# Altium schematic symbol library MCU_NXP_Kinetis.SchLib: 155 symbols (part 2 of 5)
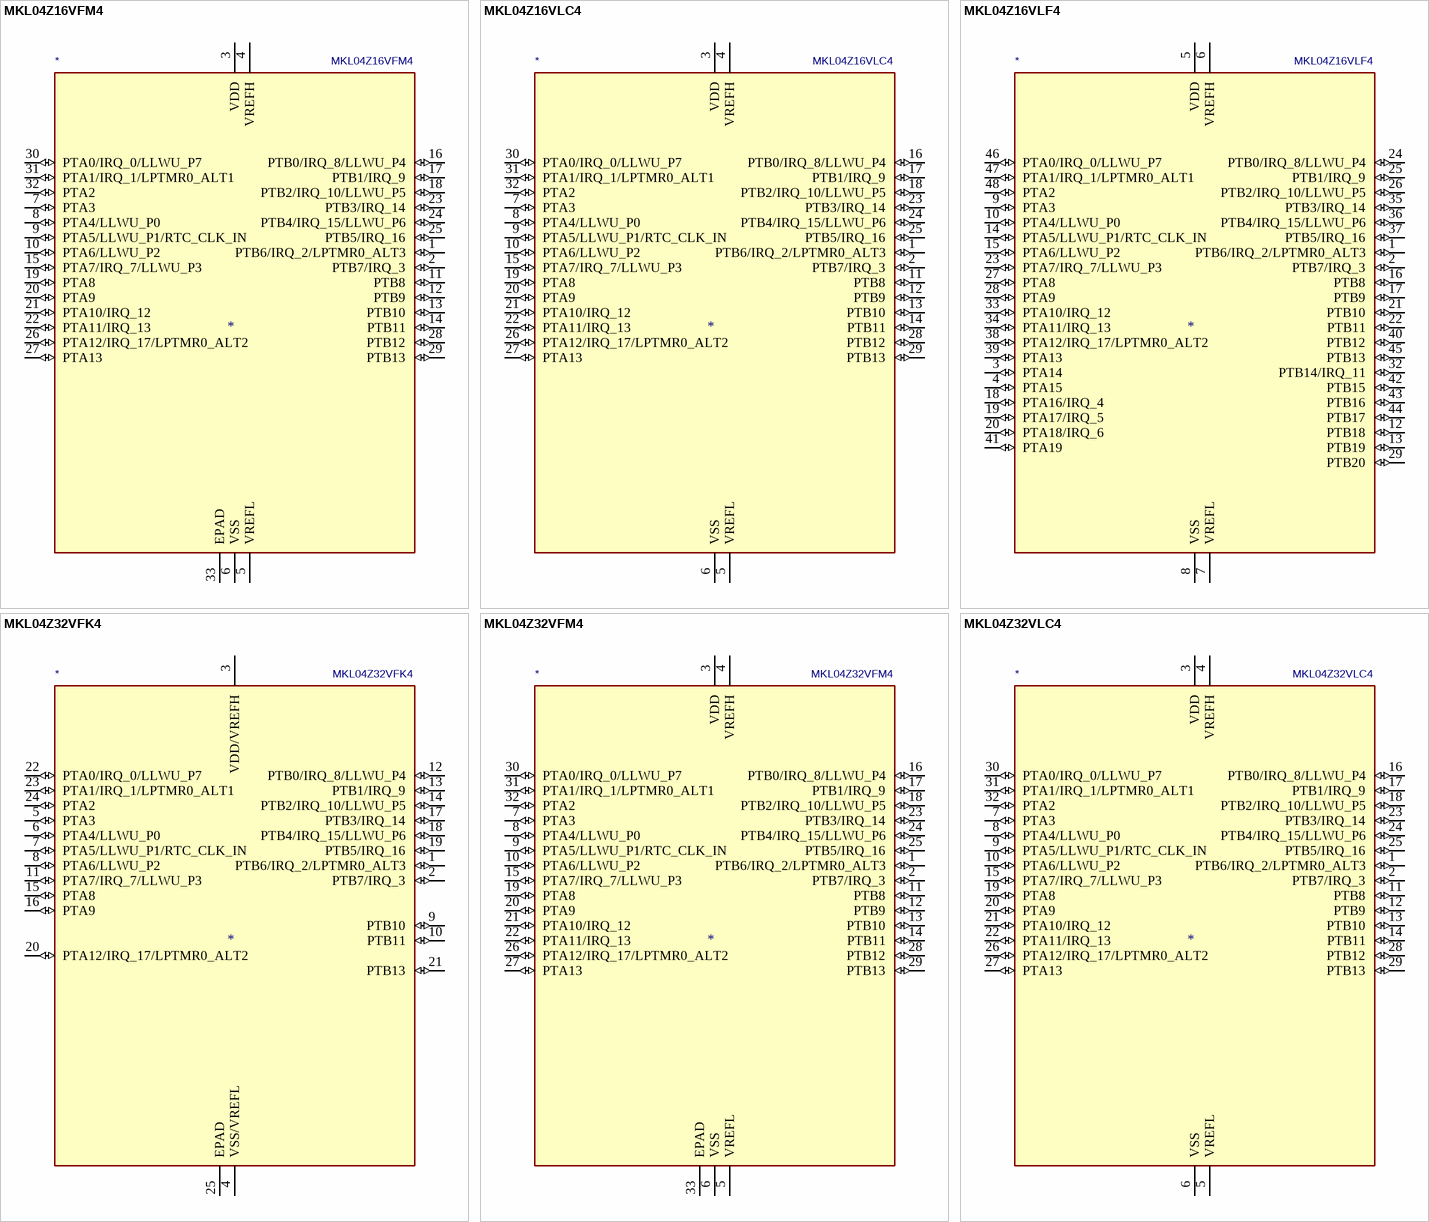
[diagram p31: symbols MKL04Z16VFM4 to MKL04Z32VLC4]

## MKL04Z32VFK4
designator *  value MKL04Z32VFK4
ki_keywords: Kinetis KL04 ARM Cortex M0+; ki_description: Kinetis KL04 series, 48-MHz/32-bit ARM Cortex-M0+, 32 kB flash, 4 kB SRAM, QFN-24; ki_fp_filters: QFN*4x4mm*P0.5mm*; Footprint: Package_DFN_QFN:QFN-24-1EP_4x4mm_P0.5mm_EP2.6x2.6mm; Supplier: http://www.nxp.com/docs/en/data-sheet/KL04P48M48SF1.pdf
footprint QFN-24-1EP_4x4mm_P0.5mm_EP2.6x2.6mm
pins: 1 PTB6/IRQ_2/LPTMR0_ALT3 (io), 2 PTB7/IRQ_3 (io), 3 VDD/VREFH (power), 4 VSS/VREFL (power), 5 PTA3 (io), 6 PTA4/LLWU_P0 (io), 7 PTA5/LLWU_P1/RTC_CLK_IN (io), 8 PTA6/LLWU_P2 (io), 9 PTB10 (io), 10 PTB11 (io), 11 PTA7/IRQ_7/LLWU_P3 (io), 12 PTB0/IRQ_8/LLWU_P4 (io), 13 PTB1/IRQ_9 (io), 14 PTB2/IRQ_10/LLWU_P5 (io), 15 PTA8 (io), 16 PTA9 (io), 17 PTB3/IRQ_14 (io), 18 PTB4/IRQ_15/LLWU_P6 (io), 19 PTB5/IRQ_16 (io), 20 PTA12/IRQ_17/LPTMR0_ALT2 (io), 21 PTB13 (io), 22 PTA0/IRQ_0/LLWU_P7 (io), 23 PTA1/IRQ_1/LPTMR0_ALT1 (io), 24 PTA2 (io), 25 EPAD (power)

## MKL04Z32VFM4
designator *  value MKL04Z32VFM4
ki_keywords: Kinetis KL04 ARM Cortex M0+; ki_description: Kinetis KL04 series, 48-MHz/32-bit ARM Cortex-M0+, 32 kB flash, 4 kB SRAM, QFN-32; ki_fp_filters: QFN*5x5mm*P0.5mm*; Footprint: Package_DFN_QFN:QFN-32-1EP_5x5mm_P0.5mm_EP3.45x3.45mm; Supplier: http://www.nxp.com/docs/en/data-sheet/KL04P48M48SF1.pdf
footprint QFN-32-1EP_5x5mm_P0.5mm_EP3.45x3.45mm
pins: 1 PTB6/IRQ_2/LPTMR0_ALT3 (io), 2 PTB7/IRQ_3 (io), 3 VDD (power), 4 VREFH (power), 5 VREFL (power), 6 VSS (power), 7 PTA3 (io), 8 PTA4/LLWU_P0 (io), 9 PTA5/LLWU_P1/RTC_CLK_IN (io), 10 PTA6/LLWU_P2 (io), 11 PTB8 (io), 12 PTB9 (io), 13 PTB10 (io), 14 PTB11 (io), 15 PTA7/IRQ_7/LLWU_P3 (io), 16 PTB0/IRQ_8/LLWU_P4 (io), 17 PTB1/IRQ_9 (io), 18 PTB2/IRQ_10/LLWU_P5 (io), 19 PTA8 (io), 20 PTA9 (io), 21 PTA10/IRQ_12 (io), 22 PTA11/IRQ_13 (io), 23 PTB3/IRQ_14 (io), 24 PTB4/IRQ_15/LLWU_P6 (io), 25 PTB5/IRQ_16 (io), 26 PTA12/IRQ_17/LPTMR0_ALT2 (io), 27 PTA13 (io), 28 PTB12 (io), 29 PTB13 (io), 30 PTA0/IRQ_0/LLWU_P7 (io), 31 PTA1/IRQ_1/LPTMR0_ALT1 (io), 32 PTA2 (io), 33 EPAD (power)

## MKL04Z32VLC4
designator *  value MKL04Z32VLC4
ki_keywords: Kinetis KL04 ARM Cortex M0+; ki_description: Kinetis KL04 series, 48-MHz/32-bit ARM Cortex-M0+, 32 kB flash, 4 kB SRAM, LQFP-32; ki_fp_filters: LQFP*7x7mm*P0.8mm*; Footprint: Package_QFP:LQFP-32_7x7mm_P0.8mm; Supplier: http://www.nxp.com/docs/en/data-sheet/KL04P48M48SF1.pdf
footprint LQFP-32_7x7mm_P0.8mm
pins: 1 PTB6/IRQ_2/LPTMR0_ALT3 (io), 2 PTB7/IRQ_3 (io), 3 VDD (power), 4 VREFH (power), 5 VREFL (power), 6 VSS (power), 7 PTA3 (io), 8 PTA4/LLWU_P0 (io), 9 PTA5/LLWU_P1/RTC_CLK_IN (io), 10 PTA6/LLWU_P2 (io), 11 PTB8 (io), 12 PTB9 (io), 13 PTB10 (io), 14 PTB11 (io), 15 PTA7/IRQ_7/LLWU_P3 (io), 16 PTB0/IRQ_8/LLWU_P4 (io), 17 PTB1/IRQ_9 (io), 18 PTB2/IRQ_10/LLWU_P5 (io), 19 PTA8 (io), 20 PTA9 (io), 21 PTA10/IRQ_12 (io), 22 PTA11/IRQ_13 (io), 23 PTB3/IRQ_14 (io), 24 PTB4/IRQ_15/LLWU_P6 (io), 25 PTB5/IRQ_16 (io), 26 PTA12/IRQ_17/LPTMR0_ALT2 (io), 27 PTA13 (io), 28 PTB12 (io), 29 PTB13 (io), 30 PTA0/IRQ_0/LLWU_P7 (io), 31 PTA1/IRQ_1/LPTMR0_ALT1 (io), 32 PTA2 (io)

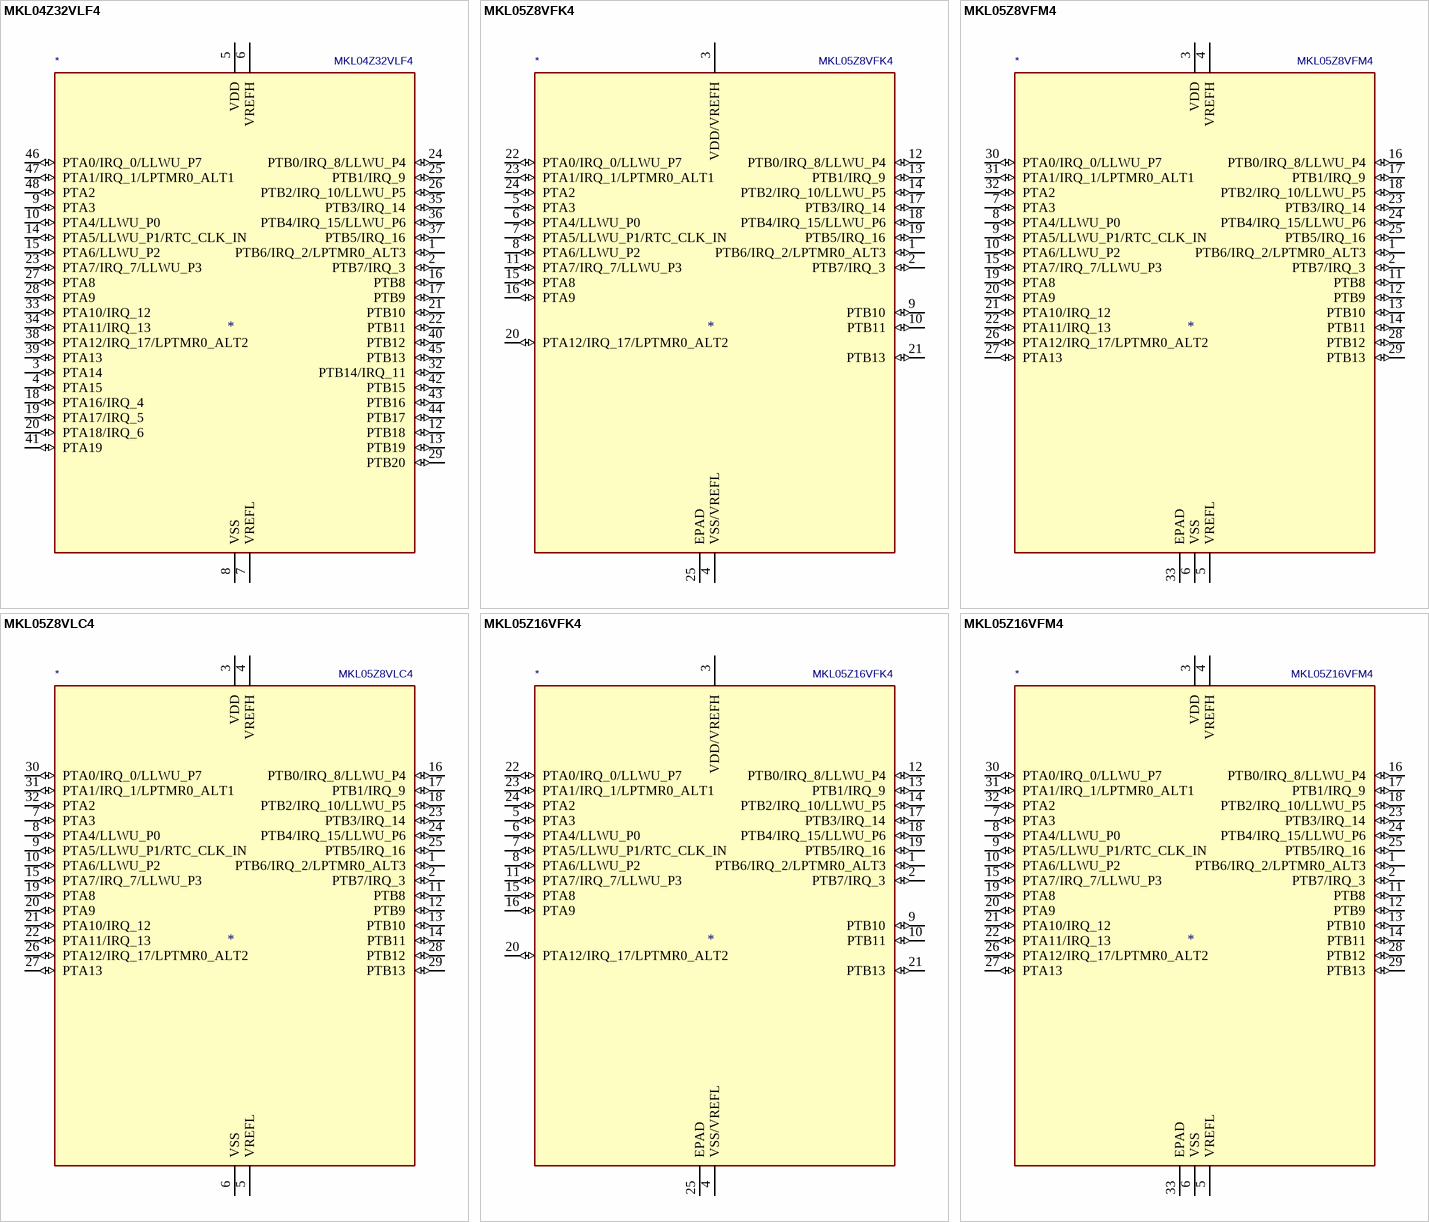
[diagram p7: symbols MKL04Z32VLF4 to MKL05Z16VFM4]

## MKL04Z32VLF4
designator *  value MKL04Z32VLF4
ki_keywords: Kinetis KL04 ARM Cortex M0+; ki_description: Kinetis KL04 series, 48-MHz/32-bit ARM Cortex-M0+, 32 kB flash, 4 kB SRAM, LQFP-48; ki_fp_filters: LQFP*7x7mm*P0.5mm*; Footprint: Package_QFP:LQFP-48_7x7mm_P0.5mm; Supplier: http://www.nxp.com/docs/en/data-sheet/KL04P48M48SF1.pdf
footprint LQFP-48_7x7mm_P0.5mm
pins: 1 PTB6/IRQ_2/LPTMR0_ALT3 (io), 2 PTB7/IRQ_3 (io), 3 PTA14 (io), 4 PTA15 (io), 5 VDD (power), 6 VREFH (power), 7 VREFL (power), 8 VSS (power), 9 PTA3 (io), 10 PTA4/LLWU_P0 (io), 11 VSS hidden, 12 PTB18 (io), 13 PTB19 (io), 14 PTA5/LLWU_P1/RTC_CLK_IN (io), 15 PTA6/LLWU_P2 (io), 16 PTB8 (io), 17 PTB9 (io), 18 PTA16/IRQ_4 (io), 19 PTA17/IRQ_5 (io), 20 PTA18/IRQ_6 (io), 21 PTB10 (io), 22 PTB11 (io), 23 PTA7/IRQ_7/LLWU_P3 (io), 24 PTB0/IRQ_8/LLWU_P4 (io), 25 PTB1/IRQ_9 (io), 26 PTB2/IRQ_10/LLWU_P5 (io), 27 PTA8 (io), 28 PTA9 (io), 29 PTB20 (io), 30 VSS hidden, 31 VDD hidden, 32 PTB14/IRQ_11 (io), 33 PTA10/IRQ_12 (io), 34 PTA11/IRQ_13 (io), 35 PTB3/IRQ_14 (io), 36 PTB4/IRQ_15/LLWU_P6 (io), 37 PTB5/IRQ_16 (io), 38 PTA12/IRQ_17/LPTMR0_ALT2 (io), 39 PTA13 (io), 40 PTB12 (io), 41 PTA19 (io), 42 PTB15 (io), 43 PTB16 (io), 44 PTB17 (io), 45 PTB13 (io), 46 PTA0/IRQ_0/LLWU_P7 (io), 47 PTA1/IRQ_1/LPTMR0_ALT1 (io), 48 PTA2 (io)

## MKL05Z8VFK4
designator *  value MKL05Z8VFK4
ki_keywords: Kinetis KL05 ARM Cortex M0+; ki_description: Kinetis KL05 series, 48-MHz/32-bit ARM Cortex-M0+, 8 kB flash, 1 kB SRAM, QFN-24; ki_fp_filters: QFN*4x4mm*P0.5mm*; Footprint: Package_DFN_QFN:QFN-24-1EP_4x4mm_P0.5mm_EP2.6x2.6mm; Supplier: http://www.nxp.com/docs/en/data-sheet/KL05P48M48SF1.pdf
footprint QFN-24-1EP_4x4mm_P0.5mm_EP2.6x2.6mm
pins: 1 PTB6/IRQ_2/LPTMR0_ALT3 (io), 2 PTB7/IRQ_3 (io), 3 VDD/VREFH (power), 4 VSS/VREFL (power), 5 PTA3 (io), 6 PTA4/LLWU_P0 (io), 7 PTA5/LLWU_P1/RTC_CLK_IN (io), 8 PTA6/LLWU_P2 (io), 9 PTB10 (io), 10 PTB11 (io), 11 PTA7/IRQ_7/LLWU_P3 (io), 12 PTB0/IRQ_8/LLWU_P4 (io), 13 PTB1/IRQ_9 (io), 14 PTB2/IRQ_10/LLWU_P5 (io), 15 PTA8 (io), 16 PTA9 (io), 17 PTB3/IRQ_14 (io), 18 PTB4/IRQ_15/LLWU_P6 (io), 19 PTB5/IRQ_16 (io), 20 PTA12/IRQ_17/LPTMR0_ALT2 (io), 21 PTB13 (io), 22 PTA0/IRQ_0/LLWU_P7 (io), 23 PTA1/IRQ_1/LPTMR0_ALT1 (io), 24 PTA2 (io), 25 EPAD (power)

## MKL05Z8VFM4
designator *  value MKL05Z8VFM4
ki_keywords: Kinetis KL05 ARM Cortex M0+; ki_description: Kinetis KL05 series, 48-MHz/32-bit ARM Cortex-M0+, 8 kB flash, 1 kB SRAM, QFN-32; ki_fp_filters: QFN*5x5mm*P0.5mm*; Footprint: Package_DFN_QFN:QFN-32-1EP_5x5mm_P0.5mm_EP3.45x3.45mm; Supplier: http://www.nxp.com/docs/en/data-sheet/KL05P48M48SF1.pdf
footprint QFN-32-1EP_5x5mm_P0.5mm_EP3.45x3.45mm
pins: 1 PTB6/IRQ_2/LPTMR0_ALT3 (io), 2 PTB7/IRQ_3 (io), 3 VDD (power), 4 VREFH (power), 5 VREFL (power), 6 VSS (power), 7 PTA3 (io), 8 PTA4/LLWU_P0 (io), 9 PTA5/LLWU_P1/RTC_CLK_IN (io), 10 PTA6/LLWU_P2 (io), 11 PTB8 (io), 12 PTB9 (io), 13 PTB10 (io), 14 PTB11 (io), 15 PTA7/IRQ_7/LLWU_P3 (io), 16 PTB0/IRQ_8/LLWU_P4 (io), 17 PTB1/IRQ_9 (io), 18 PTB2/IRQ_10/LLWU_P5 (io), 19 PTA8 (io), 20 PTA9 (io), 21 PTA10/IRQ_12 (io), 22 PTA11/IRQ_13 (io), 23 PTB3/IRQ_14 (io), 24 PTB4/IRQ_15/LLWU_P6 (io), 25 PTB5/IRQ_16 (io), 26 PTA12/IRQ_17/LPTMR0_ALT2 (io), 27 PTA13 (io), 28 PTB12 (io), 29 PTB13 (io), 30 PTA0/IRQ_0/LLWU_P7 (io), 31 PTA1/IRQ_1/LPTMR0_ALT1 (io), 32 PTA2 (io), 33 EPAD (power)

## MKL05Z8VLC4
designator *  value MKL05Z8VLC4
ki_keywords: Kinetis KL05 ARM Cortex M0+; ki_description: Kinetis KL05 series, 48-MHz/32-bit ARM Cortex-M0+, 8 kB flash, 1 kB SRAM, LQFP-32; ki_fp_filters: LQFP*7x7mm*P0.8mm*; Footprint: Package_QFP:LQFP-32_7x7mm_P0.8mm; Supplier: http://www.nxp.com/docs/en/data-sheet/KL05P48M48SF1.pdf
footprint LQFP-32_7x7mm_P0.8mm
pins: 1 PTB6/IRQ_2/LPTMR0_ALT3 (io), 2 PTB7/IRQ_3 (io), 3 VDD (power), 4 VREFH (power), 5 VREFL (power), 6 VSS (power), 7 PTA3 (io), 8 PTA4/LLWU_P0 (io), 9 PTA5/LLWU_P1/RTC_CLK_IN (io), 10 PTA6/LLWU_P2 (io), 11 PTB8 (io), 12 PTB9 (io), 13 PTB10 (io), 14 PTB11 (io), 15 PTA7/IRQ_7/LLWU_P3 (io), 16 PTB0/IRQ_8/LLWU_P4 (io), 17 PTB1/IRQ_9 (io), 18 PTB2/IRQ_10/LLWU_P5 (io), 19 PTA8 (io), 20 PTA9 (io), 21 PTA10/IRQ_12 (io), 22 PTA11/IRQ_13 (io), 23 PTB3/IRQ_14 (io), 24 PTB4/IRQ_15/LLWU_P6 (io), 25 PTB5/IRQ_16 (io), 26 PTA12/IRQ_17/LPTMR0_ALT2 (io), 27 PTA13 (io), 28 PTB12 (io), 29 PTB13 (io), 30 PTA0/IRQ_0/LLWU_P7 (io), 31 PTA1/IRQ_1/LPTMR0_ALT1 (io), 32 PTA2 (io)

## MKL05Z16VFK4
designator *  value MKL05Z16VFK4
ki_keywords: Kinetis KL05 ARM Cortex M0+; ki_description: Kinetis KL05 series, 48-MHz/32-bit ARM Cortex-M0+, 16 kB flash, 2 kB SRAM, QFN-24; ki_fp_filters: QFN*4x4mm*P0.5mm*; Footprint: Package_DFN_QFN:QFN-24-1EP_4x4mm_P0.5mm_EP2.6x2.6mm; Supplier: http://www.nxp.com/docs/en/data-sheet/KL05P48M48SF1.pdf
footprint QFN-24-1EP_4x4mm_P0.5mm_EP2.6x2.6mm
pins: 1 PTB6/IRQ_2/LPTMR0_ALT3 (io), 2 PTB7/IRQ_3 (io), 3 VDD/VREFH (power), 4 VSS/VREFL (power), 5 PTA3 (io), 6 PTA4/LLWU_P0 (io), 7 PTA5/LLWU_P1/RTC_CLK_IN (io), 8 PTA6/LLWU_P2 (io), 9 PTB10 (io), 10 PTB11 (io), 11 PTA7/IRQ_7/LLWU_P3 (io), 12 PTB0/IRQ_8/LLWU_P4 (io), 13 PTB1/IRQ_9 (io), 14 PTB2/IRQ_10/LLWU_P5 (io), 15 PTA8 (io), 16 PTA9 (io), 17 PTB3/IRQ_14 (io), 18 PTB4/IRQ_15/LLWU_P6 (io), 19 PTB5/IRQ_16 (io), 20 PTA12/IRQ_17/LPTMR0_ALT2 (io), 21 PTB13 (io), 22 PTA0/IRQ_0/LLWU_P7 (io), 23 PTA1/IRQ_1/LPTMR0_ALT1 (io), 24 PTA2 (io), 25 EPAD (power)

## MKL05Z16VFM4
designator *  value MKL05Z16VFM4
ki_keywords: Kinetis KL05 ARM Cortex M0+; ki_description: Kinetis KL05 series, 48-MHz/32-bit ARM Cortex-M0+, 16 kB flash, 2 kB SRAM, QFN-32; ki_fp_filters: QFN*5x5mm*P0.5mm*; Footprint: Package_DFN_QFN:QFN-32-1EP_5x5mm_P0.5mm_EP3.45x3.45mm; Supplier: http://www.nxp.com/docs/en/data-sheet/KL05P48M48SF1.pdf
footprint QFN-32-1EP_5x5mm_P0.5mm_EP3.45x3.45mm
pins: 1 PTB6/IRQ_2/LPTMR0_ALT3 (io), 2 PTB7/IRQ_3 (io), 3 VDD (power), 4 VREFH (power), 5 VREFL (power), 6 VSS (power), 7 PTA3 (io), 8 PTA4/LLWU_P0 (io), 9 PTA5/LLWU_P1/RTC_CLK_IN (io), 10 PTA6/LLWU_P2 (io), 11 PTB8 (io), 12 PTB9 (io), 13 PTB10 (io), 14 PTB11 (io), 15 PTA7/IRQ_7/LLWU_P3 (io), 16 PTB0/IRQ_8/LLWU_P4 (io), 17 PTB1/IRQ_9 (io), 18 PTB2/IRQ_10/LLWU_P5 (io), 19 PTA8 (io), 20 PTA9 (io), 21 PTA10/IRQ_12 (io), 22 PTA11/IRQ_13 (io), 23 PTB3/IRQ_14 (io), 24 PTB4/IRQ_15/LLWU_P6 (io), 25 PTB5/IRQ_16 (io), 26 PTA12/IRQ_17/LPTMR0_ALT2 (io), 27 PTA13 (io), 28 PTB12 (io), 29 PTB13 (io), 30 PTA0/IRQ_0/LLWU_P7 (io), 31 PTA1/IRQ_1/LPTMR0_ALT1 (io), 32 PTA2 (io), 33 EPAD (power)

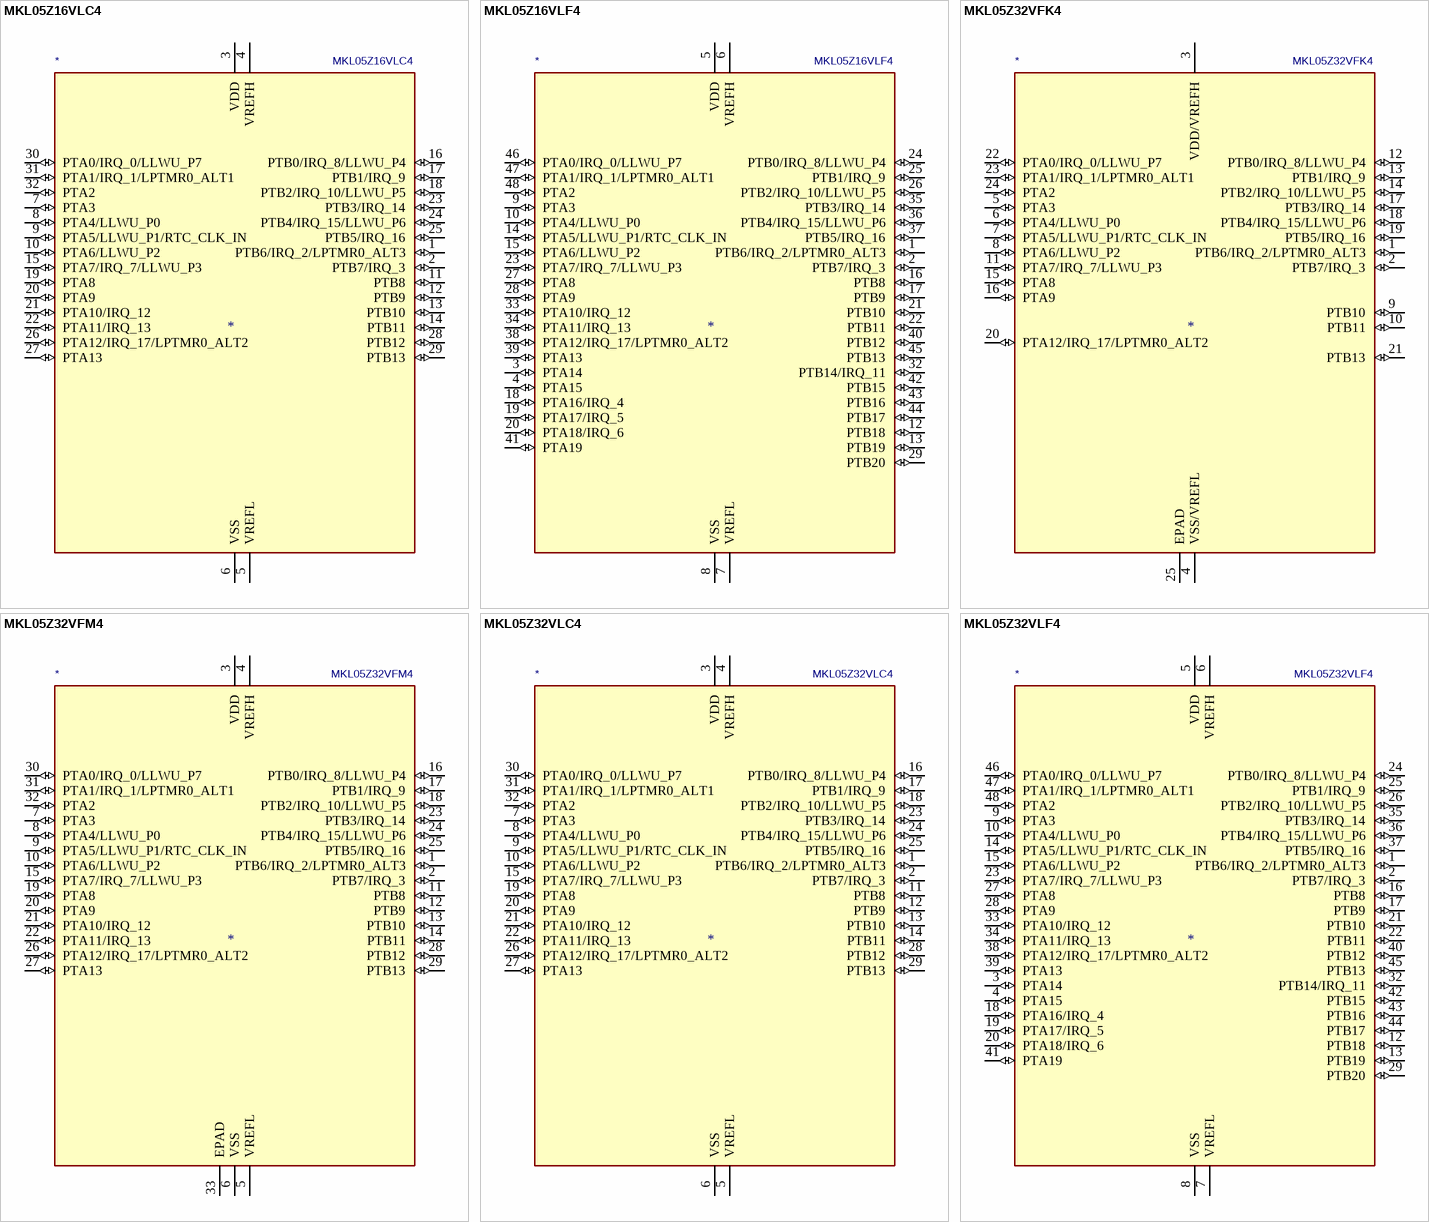
[diagram p8: symbols MKL05Z16VLC4 to MKL05Z32VLF4]

## MKL05Z16VLC4
designator *  value MKL05Z16VLC4
ki_keywords: Kinetis KL05 ARM Cortex M0+; ki_description: Kinetis KL05 series, 48-MHz/32-bit ARM Cortex-M0+, 16 kB flash, 2 kB SRAM, LQFP-32; ki_fp_filters: LQFP*7x7mm*P0.8mm*; Footprint: Package_QFP:LQFP-32_7x7mm_P0.8mm; Supplier: http://www.nxp.com/docs/en/data-sheet/KL05P48M48SF1.pdf
footprint LQFP-32_7x7mm_P0.8mm
pins: 1 PTB6/IRQ_2/LPTMR0_ALT3 (io), 2 PTB7/IRQ_3 (io), 3 VDD (power), 4 VREFH (power), 5 VREFL (power), 6 VSS (power), 7 PTA3 (io), 8 PTA4/LLWU_P0 (io), 9 PTA5/LLWU_P1/RTC_CLK_IN (io), 10 PTA6/LLWU_P2 (io), 11 PTB8 (io), 12 PTB9 (io), 13 PTB10 (io), 14 PTB11 (io), 15 PTA7/IRQ_7/LLWU_P3 (io), 16 PTB0/IRQ_8/LLWU_P4 (io), 17 PTB1/IRQ_9 (io), 18 PTB2/IRQ_10/LLWU_P5 (io), 19 PTA8 (io), 20 PTA9 (io), 21 PTA10/IRQ_12 (io), 22 PTA11/IRQ_13 (io), 23 PTB3/IRQ_14 (io), 24 PTB4/IRQ_15/LLWU_P6 (io), 25 PTB5/IRQ_16 (io), 26 PTA12/IRQ_17/LPTMR0_ALT2 (io), 27 PTA13 (io), 28 PTB12 (io), 29 PTB13 (io), 30 PTA0/IRQ_0/LLWU_P7 (io), 31 PTA1/IRQ_1/LPTMR0_ALT1 (io), 32 PTA2 (io)

## MKL05Z16VLF4
designator *  value MKL05Z16VLF4
ki_keywords: Kinetis KL05 ARM Cortex M0+; ki_description: Kinetis KL05 series, 48-MHz/32-bit ARM Cortex-M0+, 16 kB flash, 2 kB SRAM, LQFP-48; ki_fp_filters: LQFP*7x7mm*P0.5mm*; Footprint: Package_QFP:LQFP-48_7x7mm_P0.5mm; Supplier: http://www.nxp.com/docs/en/data-sheet/KL05P48M48SF1.pdf
footprint LQFP-48_7x7mm_P0.5mm
pins: 1 PTB6/IRQ_2/LPTMR0_ALT3 (io), 2 PTB7/IRQ_3 (io), 3 PTA14 (io), 4 PTA15 (io), 5 VDD (power), 6 VREFH (power), 7 VREFL (power), 8 VSS (power), 9 PTA3 (io), 10 PTA4/LLWU_P0 (io), 11 VSS hidden, 12 PTB18 (io), 13 PTB19 (io), 14 PTA5/LLWU_P1/RTC_CLK_IN (io), 15 PTA6/LLWU_P2 (io), 16 PTB8 (io), 17 PTB9 (io), 18 PTA16/IRQ_4 (io), 19 PTA17/IRQ_5 (io), 20 PTA18/IRQ_6 (io), 21 PTB10 (io), 22 PTB11 (io), 23 PTA7/IRQ_7/LLWU_P3 (io), 24 PTB0/IRQ_8/LLWU_P4 (io), 25 PTB1/IRQ_9 (io), 26 PTB2/IRQ_10/LLWU_P5 (io), 27 PTA8 (io), 28 PTA9 (io), 29 PTB20 (io), 30 VSS hidden, 31 VDD hidden, 32 PTB14/IRQ_11 (io), 33 PTA10/IRQ_12 (io), 34 PTA11/IRQ_13 (io), 35 PTB3/IRQ_14 (io), 36 PTB4/IRQ_15/LLWU_P6 (io), 37 PTB5/IRQ_16 (io), 38 PTA12/IRQ_17/LPTMR0_ALT2 (io), 39 PTA13 (io), 40 PTB12 (io), 41 PTA19 (io), 42 PTB15 (io), 43 PTB16 (io), 44 PTB17 (io), 45 PTB13 (io), 46 PTA0/IRQ_0/LLWU_P7 (io), 47 PTA1/IRQ_1/LPTMR0_ALT1 (io), 48 PTA2 (io)

## MKL05Z32VFK4
designator *  value MKL05Z32VFK4
ki_keywords: Kinetis KL05 ARM Cortex M0+; ki_description: Kinetis KL05 series, 48-MHz/32-bit ARM Cortex-M0+, 32 kB flash, 4 kB SRAM, QFN-24; ki_fp_filters: QFN*4x4mm*P0.5mm*; Footprint: Package_DFN_QFN:QFN-24-1EP_4x4mm_P0.5mm_EP2.6x2.6mm; Supplier: http://www.nxp.com/docs/en/data-sheet/KL05P48M48SF1.pdf
footprint QFN-24-1EP_4x4mm_P0.5mm_EP2.6x2.6mm
pins: 1 PTB6/IRQ_2/LPTMR0_ALT3 (io), 2 PTB7/IRQ_3 (io), 3 VDD/VREFH (power), 4 VSS/VREFL (power), 5 PTA3 (io), 6 PTA4/LLWU_P0 (io), 7 PTA5/LLWU_P1/RTC_CLK_IN (io), 8 PTA6/LLWU_P2 (io), 9 PTB10 (io), 10 PTB11 (io), 11 PTA7/IRQ_7/LLWU_P3 (io), 12 PTB0/IRQ_8/LLWU_P4 (io), 13 PTB1/IRQ_9 (io), 14 PTB2/IRQ_10/LLWU_P5 (io), 15 PTA8 (io), 16 PTA9 (io), 17 PTB3/IRQ_14 (io), 18 PTB4/IRQ_15/LLWU_P6 (io), 19 PTB5/IRQ_16 (io), 20 PTA12/IRQ_17/LPTMR0_ALT2 (io), 21 PTB13 (io), 22 PTA0/IRQ_0/LLWU_P7 (io), 23 PTA1/IRQ_1/LPTMR0_ALT1 (io), 24 PTA2 (io), 25 EPAD (power)

## MKL05Z32VFM4
designator *  value MKL05Z32VFM4
ki_keywords: Kinetis KL05 ARM Cortex M0+; ki_description: Kinetis KL05 series, 48-MHz/32-bit ARM Cortex-M0+, 32 kB flash, 4 kB SRAM, QFN-32; ki_fp_filters: QFN*5x5mm*P0.5mm*; Footprint: Package_DFN_QFN:QFN-32-1EP_5x5mm_P0.5mm_EP3.45x3.45mm; Supplier: http://www.nxp.com/docs/en/data-sheet/KL05P48M48SF1.pdf
footprint QFN-32-1EP_5x5mm_P0.5mm_EP3.45x3.45mm
pins: 1 PTB6/IRQ_2/LPTMR0_ALT3 (io), 2 PTB7/IRQ_3 (io), 3 VDD (power), 4 VREFH (power), 5 VREFL (power), 6 VSS (power), 7 PTA3 (io), 8 PTA4/LLWU_P0 (io), 9 PTA5/LLWU_P1/RTC_CLK_IN (io), 10 PTA6/LLWU_P2 (io), 11 PTB8 (io), 12 PTB9 (io), 13 PTB10 (io), 14 PTB11 (io), 15 PTA7/IRQ_7/LLWU_P3 (io), 16 PTB0/IRQ_8/LLWU_P4 (io), 17 PTB1/IRQ_9 (io), 18 PTB2/IRQ_10/LLWU_P5 (io), 19 PTA8 (io), 20 PTA9 (io), 21 PTA10/IRQ_12 (io), 22 PTA11/IRQ_13 (io), 23 PTB3/IRQ_14 (io), 24 PTB4/IRQ_15/LLWU_P6 (io), 25 PTB5/IRQ_16 (io), 26 PTA12/IRQ_17/LPTMR0_ALT2 (io), 27 PTA13 (io), 28 PTB12 (io), 29 PTB13 (io), 30 PTA0/IRQ_0/LLWU_P7 (io), 31 PTA1/IRQ_1/LPTMR0_ALT1 (io), 32 PTA2 (io), 33 EPAD (power)

## MKL05Z32VLC4
designator *  value MKL05Z32VLC4
ki_keywords: Kinetis KL05 ARM Cortex M0+; ki_description: Kinetis KL05 series, 48-MHz/32-bit ARM Cortex-M0+, 32 kB flash, 4 kB SRAM, LQFP-32; ki_fp_filters: LQFP*7x7mm*P0.8mm*; Footprint: Package_QFP:LQFP-32_7x7mm_P0.8mm; Supplier: http://www.nxp.com/docs/en/data-sheet/KL05P48M48SF1.pdf
footprint LQFP-32_7x7mm_P0.8mm
pins: 1 PTB6/IRQ_2/LPTMR0_ALT3 (io), 2 PTB7/IRQ_3 (io), 3 VDD (power), 4 VREFH (power), 5 VREFL (power), 6 VSS (power), 7 PTA3 (io), 8 PTA4/LLWU_P0 (io), 9 PTA5/LLWU_P1/RTC_CLK_IN (io), 10 PTA6/LLWU_P2 (io), 11 PTB8 (io), 12 PTB9 (io), 13 PTB10 (io), 14 PTB11 (io), 15 PTA7/IRQ_7/LLWU_P3 (io), 16 PTB0/IRQ_8/LLWU_P4 (io), 17 PTB1/IRQ_9 (io), 18 PTB2/IRQ_10/LLWU_P5 (io), 19 PTA8 (io), 20 PTA9 (io), 21 PTA10/IRQ_12 (io), 22 PTA11/IRQ_13 (io), 23 PTB3/IRQ_14 (io), 24 PTB4/IRQ_15/LLWU_P6 (io), 25 PTB5/IRQ_16 (io), 26 PTA12/IRQ_17/LPTMR0_ALT2 (io), 27 PTA13 (io), 28 PTB12 (io), 29 PTB13 (io), 30 PTA0/IRQ_0/LLWU_P7 (io), 31 PTA1/IRQ_1/LPTMR0_ALT1 (io), 32 PTA2 (io)

## MKL05Z32VLF4
designator *  value MKL05Z32VLF4
ki_keywords: Kinetis KL05 ARM Cortex M0+; ki_description: Kinetis KL05 series, 48-MHz/32-bit ARM Cortex-M0+, 32 kB flash, 4 kB SRAM, LQFP-48; ki_fp_filters: LQFP*7x7mm*P0.5mm*; Footprint: Package_QFP:LQFP-48_7x7mm_P0.5mm; Supplier: http://www.nxp.com/docs/en/data-sheet/KL05P48M48SF1.pdf
footprint LQFP-48_7x7mm_P0.5mm
pins: 1 PTB6/IRQ_2/LPTMR0_ALT3 (io), 2 PTB7/IRQ_3 (io), 3 PTA14 (io), 4 PTA15 (io), 5 VDD (power), 6 VREFH (power), 7 VREFL (power), 8 VSS (power), 9 PTA3 (io), 10 PTA4/LLWU_P0 (io), 11 VSS hidden, 12 PTB18 (io), 13 PTB19 (io), 14 PTA5/LLWU_P1/RTC_CLK_IN (io), 15 PTA6/LLWU_P2 (io), 16 PTB8 (io), 17 PTB9 (io), 18 PTA16/IRQ_4 (io), 19 PTA17/IRQ_5 (io), 20 PTA18/IRQ_6 (io), 21 PTB10 (io), 22 PTB11 (io), 23 PTA7/IRQ_7/LLWU_P3 (io), 24 PTB0/IRQ_8/LLWU_P4 (io), 25 PTB1/IRQ_9 (io), 26 PTB2/IRQ_10/LLWU_P5 (io), 27 PTA8 (io), 28 PTA9 (io), 29 PTB20 (io), 30 VSS hidden, 31 VDD hidden, 32 PTB14/IRQ_11 (io), 33 PTA10/IRQ_12 (io), 34 PTA11/IRQ_13 (io), 35 PTB3/IRQ_14 (io), 36 PTB4/IRQ_15/LLWU_P6 (io), 37 PTB5/IRQ_16 (io), 38 PTA12/IRQ_17/LPTMR0_ALT2 (io), 39 PTA13 (io), 40 PTB12 (io), 41 PTA19 (io), 42 PTB15 (io), 43 PTB16 (io), 44 PTB17 (io), 45 PTB13 (io), 46 PTA0/IRQ_0/LLWU_P7 (io), 47 PTA1/IRQ_1/LPTMR0_ALT1 (io), 48 PTA2 (io)

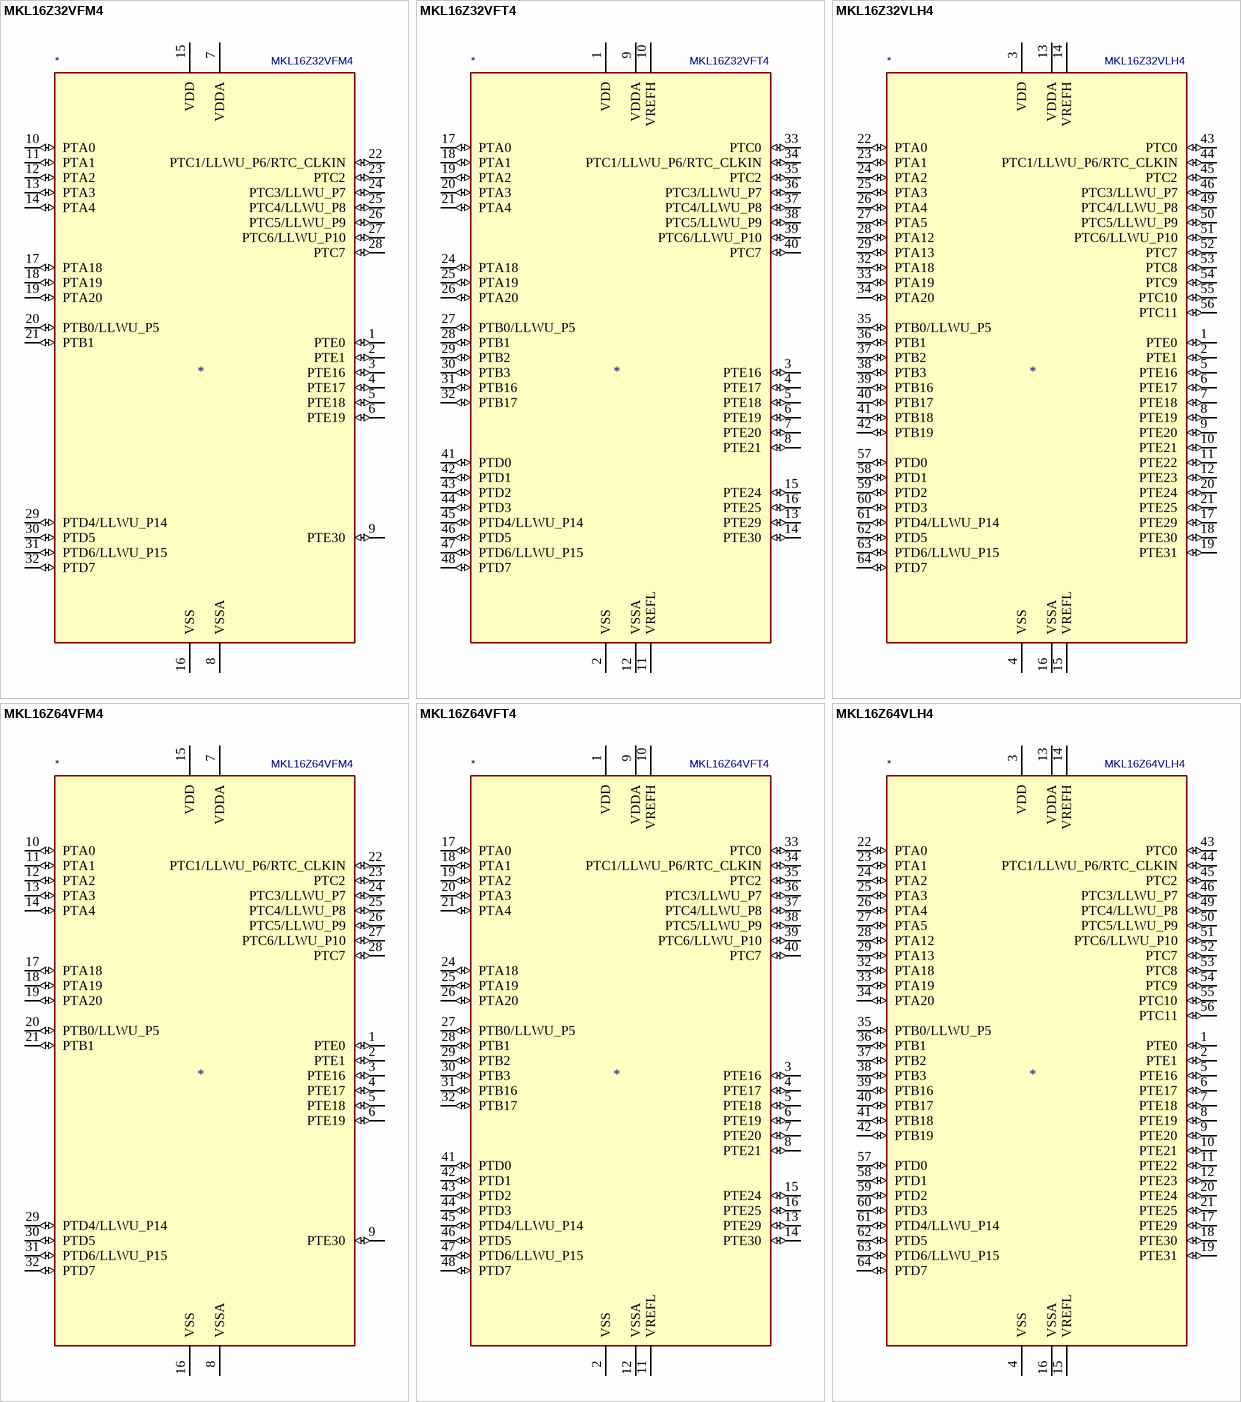
[diagram p9: symbols MKL16Z32VFM4 to MKL16Z64VLH4]

## MKL16Z32VFM4
designator *  value MKL16Z32VFM4
ki_keywords: Kinetis KL16 ARM Cortex M0+; ki_description: Kinetis KL16 series, 48-MHz/32-bit ARM Cortex-M0+, 32 kB flash, 4 kB SRAM, I²S, TSI, QFN-32; ki_fp_filters: QFN*5x5mm*P0.5mm*; Footprint: Package_DFN_QFN:QFN-32-1EP_5x5mm_P0.5mm_EP3.45x3.45mm; Supplier: http://www.nxp.com/docs/en/data-sheet/KL16P64M48SF5.pdf
footprint QFN-32-1EP_5x5mm_P0.5mm_EP3.45x3.45mm
pins: 1 PTE0 (io), 2 PTE1 (io), 3 PTE16 (io), 4 PTE17 (io), 5 PTE18 (io), 6 PTE19 (io), 7 VDDA (power), 8 VSSA (power), 9 PTE30 (io), 10 PTA0 (io), 11 PTA1 (io), 12 PTA2 (io), 13 PTA3 (io), 14 PTA4 (io), 15 VDD (power), 16 VSS (power), 17 PTA18 (io), 18 PTA19 (io), 19 PTA20 (io), 20 PTB0/LLWU_P5 (io), 21 PTB1 (io), 22 PTC1/LLWU_P6/RTC_CLKIN (io), 23 PTC2 (io), 24 PTC3/LLWU_P7 (io), 25 PTC4/LLWU_P8 (io), 26 PTC5/LLWU_P9 (io), 27 PTC6/LLWU_P10 (io), 28 PTC7 (io), 29 PTD4/LLWU_P14 (io), 30 PTD5 (io), 31 PTD6/LLWU_P15 (io), 32 PTD7 (io)

## MKL16Z32VFT4
designator *  value MKL16Z32VFT4
ki_keywords: Kinetis KL16 ARM Cortex M0+; ki_description: Kinetis KL16 series, 48-MHz/32-bit ARM Cortex-M0+, 32 kB flash, 4 kB SRAM, I²S, TSI, QFN-48; ki_fp_filters: QFN*7x7mm*P0.5mm*; Footprint: Package_DFN_QFN:QFN-48-1EP_7x7mm_P0.5mm_EP5.15x5.15mm; Supplier: http://www.nxp.com/docs/en/data-sheet/KL16P64M48SF5.pdf
footprint QFN-48-1EP_7x7mm_P0.5mm_EP5.15x5.15mm
pins: 1 VDD (power), 2 VSS (power), 3 PTE16 (io), 4 PTE17 (io), 5 PTE18 (io), 6 PTE19 (io), 7 PTE20 (io), 8 PTE21 (io), 9 VDDA (power), 10 VREFH (power), 11 VREFL (power), 12 VSSA (power), 13 PTE29 (io), 14 PTE30 (io), 15 PTE24 (io), 16 PTE25 (io), 17 PTA0 (io), 18 PTA1 (io), 19 PTA2 (io), 20 PTA3 (io), 21 PTA4 (io), 22 VDD hidden, 23 VSS hidden, 24 PTA18 (io), 25 PTA19 (io), 26 PTA20 (io), 27 PTB0/LLWU_P5 (io), 28 PTB1 (io), 29 PTB2 (io), 30 PTB3 (io), 31 PTB16 (io), 32 PTB17 (io), 33 PTC0 (io), 34 PTC1/LLWU_P6/RTC_CLKIN (io), 35 PTC2 (io), 36 PTC3/LLWU_P7 (io), 37 PTC4/LLWU_P8 (io), 38 PTC5/LLWU_P9 (io), 39 PTC6/LLWU_P10 (io), 40 PTC7 (io), 41 PTD0 (io), 42 PTD1 (io), 43 PTD2 (io), 44 PTD3 (io), 45 PTD4/LLWU_P14 (io), 46 PTD5 (io), 47 PTD6/LLWU_P15 (io), 48 PTD7 (io)

## MKL16Z32VLH4
designator *  value MKL16Z32VLH4
ki_keywords: Kinetis KL16 ARM Cortex M0+; ki_description: Kinetis KL16 series, 48-MHz/32-bit ARM Cortex-M0+, 32 kB flash, 4 kB SRAM, I²S, TSI, LQFP-64; ki_fp_filters: LQFP*10x10mm*P0.5mm*; Footprint: Package_QFP:LQFP-64_10x10mm_P0.5mm; Supplier: http://www.nxp.com/docs/en/data-sheet/KL16P64M48SF5.pdf
footprint LQFP-64_10x10mm_P0.5mm
pins: 1 PTE0 (io), 2 PTE1 (io), 3 VDD (power), 4 VSS (power), 5 PTE16 (io), 6 PTE17 (io), 7 PTE18 (io), 8 PTE19 (io), 9 PTE20 (io), 10 PTE21 (io), 11 PTE22 (io), 12 PTE23 (io), 13 VDDA (power), 14 VREFH (power), 15 VREFL (power), 16 VSSA (power), 17 PTE29 (io), 18 PTE30 (io), 19 PTE31 (io), 20 PTE24 (io), 21 PTE25 (io), 22 PTA0 (io), 23 PTA1 (io), 24 PTA2 (io), 25 PTA3 (io), 26 PTA4 (io), 27 PTA5 (io), 28 PTA12 (io), 29 PTA13 (io), 30 VDD hidden, 31 VSS hidden, 32 PTA18 (io), 33 PTA19 (io), 34 PTA20 (io), 35 PTB0/LLWU_P5 (io), 36 PTB1 (io), 37 PTB2 (io), 38 PTB3 (io), 39 PTB16 (io), 40 PTB17 (io), 41 PTB18 (io), 42 PTB19 (io), 43 PTC0 (io), 44 PTC1/LLWU_P6/RTC_CLKIN (io), 45 PTC2 (io), 46 PTC3/LLWU_P7 (io), 47 VSS hidden, 48 VDD hidden, 49 PTC4/LLWU_P8 (io), 50 PTC5/LLWU_P9 (io), 51 PTC6/LLWU_P10 (io), 52 PTC7 (io), 53 PTC8 (io), 54 PTC9 (io), 55 PTC10 (io), 56 PTC11 (io), 57 PTD0 (io), 58 PTD1 (io), 59 PTD2 (io), 60 PTD3 (io), 61 PTD4/LLWU_P14 (io), 62 PTD5 (io), 63 PTD6/LLWU_P15 (io), 64 PTD7 (io)

## MKL16Z64VFM4
designator *  value MKL16Z64VFM4
ki_keywords: Kinetis KL16 ARM Cortex M0+; ki_description: Kinetis KL16 series, 48-MHz/32-bit ARM Cortex-M0+, 64 kB flash, 8 kB SRAM, I²S, TSI, QFN-32; ki_fp_filters: QFN*5x5mm*P0.5mm*; Footprint: Package_DFN_QFN:QFN-32-1EP_5x5mm_P0.5mm_EP3.45x3.45mm; Supplier: http://www.nxp.com/docs/en/data-sheet/KL16P64M48SF5.pdf
footprint QFN-32-1EP_5x5mm_P0.5mm_EP3.45x3.45mm
pins: 1 PTE0 (io), 2 PTE1 (io), 3 PTE16 (io), 4 PTE17 (io), 5 PTE18 (io), 6 PTE19 (io), 7 VDDA (power), 8 VSSA (power), 9 PTE30 (io), 10 PTA0 (io), 11 PTA1 (io), 12 PTA2 (io), 13 PTA3 (io), 14 PTA4 (io), 15 VDD (power), 16 VSS (power), 17 PTA18 (io), 18 PTA19 (io), 19 PTA20 (io), 20 PTB0/LLWU_P5 (io), 21 PTB1 (io), 22 PTC1/LLWU_P6/RTC_CLKIN (io), 23 PTC2 (io), 24 PTC3/LLWU_P7 (io), 25 PTC4/LLWU_P8 (io), 26 PTC5/LLWU_P9 (io), 27 PTC6/LLWU_P10 (io), 28 PTC7 (io), 29 PTD4/LLWU_P14 (io), 30 PTD5 (io), 31 PTD6/LLWU_P15 (io), 32 PTD7 (io)

## MKL16Z64VFT4
designator *  value MKL16Z64VFT4
ki_keywords: Kinetis KL16 ARM Cortex M0+; ki_description: Kinetis KL16 series, 48-MHz/32-bit ARM Cortex-M0+, 64 kB flash, 8 kB SRAM, I²S, TSI, QFN-48; ki_fp_filters: QFN*7x7mm*P0.5mm*; Footprint: Package_DFN_QFN:QFN-48-1EP_7x7mm_P0.5mm_EP5.15x5.15mm; Supplier: http://www.nxp.com/docs/en/data-sheet/KL16P64M48SF5.pdf
footprint QFN-48-1EP_7x7mm_P0.5mm_EP5.15x5.15mm
pins: 1 VDD (power), 2 VSS (power), 3 PTE16 (io), 4 PTE17 (io), 5 PTE18 (io), 6 PTE19 (io), 7 PTE20 (io), 8 PTE21 (io), 9 VDDA (power), 10 VREFH (power), 11 VREFL (power), 12 VSSA (power), 13 PTE29 (io), 14 PTE30 (io), 15 PTE24 (io), 16 PTE25 (io), 17 PTA0 (io), 18 PTA1 (io), 19 PTA2 (io), 20 PTA3 (io), 21 PTA4 (io), 22 VDD hidden, 23 VSS hidden, 24 PTA18 (io), 25 PTA19 (io), 26 PTA20 (io), 27 PTB0/LLWU_P5 (io), 28 PTB1 (io), 29 PTB2 (io), 30 PTB3 (io), 31 PTB16 (io), 32 PTB17 (io), 33 PTC0 (io), 34 PTC1/LLWU_P6/RTC_CLKIN (io), 35 PTC2 (io), 36 PTC3/LLWU_P7 (io), 37 PTC4/LLWU_P8 (io), 38 PTC5/LLWU_P9 (io), 39 PTC6/LLWU_P10 (io), 40 PTC7 (io), 41 PTD0 (io), 42 PTD1 (io), 43 PTD2 (io), 44 PTD3 (io), 45 PTD4/LLWU_P14 (io), 46 PTD5 (io), 47 PTD6/LLWU_P15 (io), 48 PTD7 (io)

## MKL16Z64VLH4
designator *  value MKL16Z64VLH4
ki_keywords: Kinetis KL16 ARM Cortex M0+; ki_description: Kinetis KL16 series, 48-MHz/32-bit ARM Cortex-M0+, 64 kB flash, 8 kB SRAM, I²S, TSI, LQFP-64; ki_fp_filters: LQFP*10x10mm*P0.5mm*; Footprint: Package_QFP:LQFP-64_10x10mm_P0.5mm; Supplier: http://www.nxp.com/docs/en/data-sheet/KL16P64M48SF5.pdf
footprint LQFP-64_10x10mm_P0.5mm
pins: 1 PTE0 (io), 2 PTE1 (io), 3 VDD (power), 4 VSS (power), 5 PTE16 (io), 6 PTE17 (io), 7 PTE18 (io), 8 PTE19 (io), 9 PTE20 (io), 10 PTE21 (io), 11 PTE22 (io), 12 PTE23 (io), 13 VDDA (power), 14 VREFH (power), 15 VREFL (power), 16 VSSA (power), 17 PTE29 (io), 18 PTE30 (io), 19 PTE31 (io), 20 PTE24 (io), 21 PTE25 (io), 22 PTA0 (io), 23 PTA1 (io), 24 PTA2 (io), 25 PTA3 (io), 26 PTA4 (io), 27 PTA5 (io), 28 PTA12 (io), 29 PTA13 (io), 30 VDD hidden, 31 VSS hidden, 32 PTA18 (io), 33 PTA19 (io), 34 PTA20 (io), 35 PTB0/LLWU_P5 (io), 36 PTB1 (io), 37 PTB2 (io), 38 PTB3 (io), 39 PTB16 (io), 40 PTB17 (io), 41 PTB18 (io), 42 PTB19 (io), 43 PTC0 (io), 44 PTC1/LLWU_P6/RTC_CLKIN (io), 45 PTC2 (io), 46 PTC3/LLWU_P7 (io), 47 VSS hidden, 48 VDD hidden, 49 PTC4/LLWU_P8 (io), 50 PTC5/LLWU_P9 (io), 51 PTC6/LLWU_P10 (io), 52 PTC7 (io), 53 PTC8 (io), 54 PTC9 (io), 55 PTC10 (io), 56 PTC11 (io), 57 PTD0 (io), 58 PTD1 (io), 59 PTD2 (io), 60 PTD3 (io), 61 PTD4/LLWU_P14 (io), 62 PTD5 (io), 63 PTD6/LLWU_P15 (io), 64 PTD7 (io)

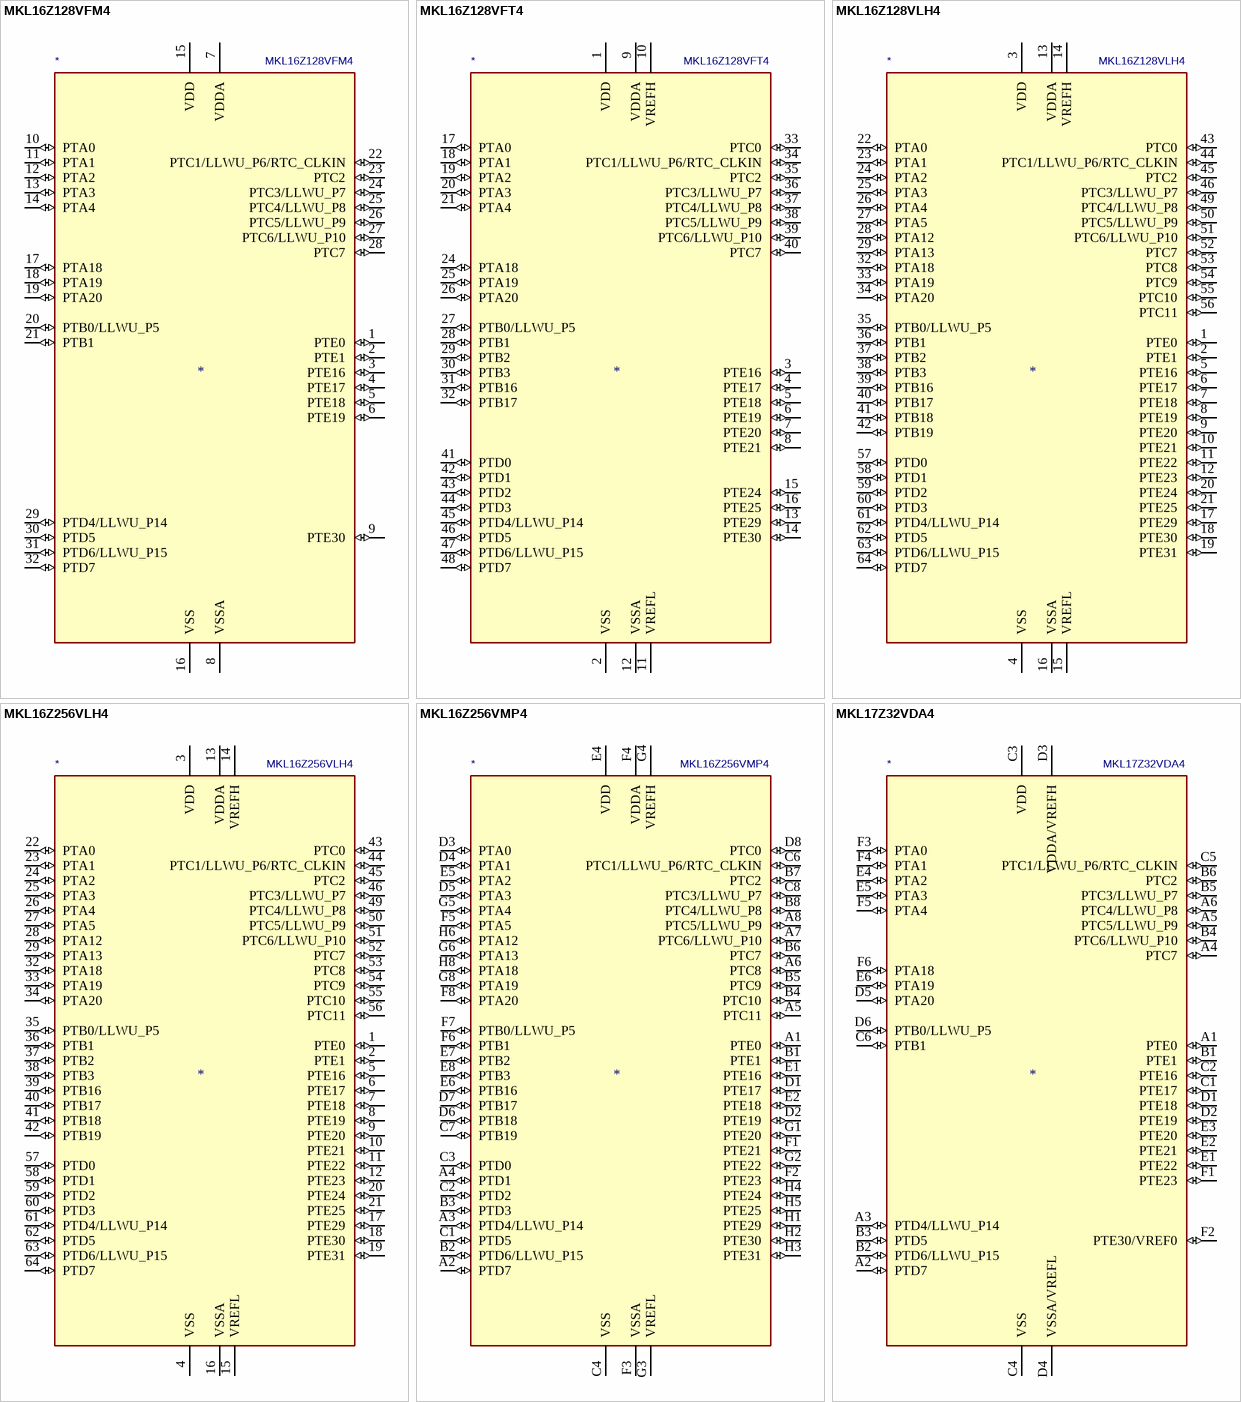
[diagram p10: symbols MKL16Z128VFM4 to MKL17Z32VDA4]

## MKL16Z128VFM4
designator *  value MKL16Z128VFM4
ki_keywords: Kinetis KL16 ARM Cortex M0+; ki_description: Kinetis KL16 series, 48-MHz/32-bit ARM Cortex-M0+, 128 kB flash, 16 kB SRAM, I²S, TSI, QFN-32; ki_fp_filters: QFN*5x5mm*P0.5mm*; Footprint: Package_DFN_QFN:QFN-32-1EP_5x5mm_P0.5mm_EP3.45x3.45mm; Supplier: http://www.nxp.com/docs/en/data-sheet/KL16P64M48SF5.pdf
footprint QFN-32-1EP_5x5mm_P0.5mm_EP3.45x3.45mm
pins: 1 PTE0 (io), 2 PTE1 (io), 3 PTE16 (io), 4 PTE17 (io), 5 PTE18 (io), 6 PTE19 (io), 7 VDDA (power), 8 VSSA (power), 9 PTE30 (io), 10 PTA0 (io), 11 PTA1 (io), 12 PTA2 (io), 13 PTA3 (io), 14 PTA4 (io), 15 VDD (power), 16 VSS (power), 17 PTA18 (io), 18 PTA19 (io), 19 PTA20 (io), 20 PTB0/LLWU_P5 (io), 21 PTB1 (io), 22 PTC1/LLWU_P6/RTC_CLKIN (io), 23 PTC2 (io), 24 PTC3/LLWU_P7 (io), 25 PTC4/LLWU_P8 (io), 26 PTC5/LLWU_P9 (io), 27 PTC6/LLWU_P10 (io), 28 PTC7 (io), 29 PTD4/LLWU_P14 (io), 30 PTD5 (io), 31 PTD6/LLWU_P15 (io), 32 PTD7 (io)

## MKL16Z128VFT4
designator *  value MKL16Z128VFT4
ki_keywords: Kinetis KL16 ARM Cortex M0+; ki_description: Kinetis KL16 series, 48-MHz/32-bit ARM Cortex-M0+, 128 kB flash, 16 kB SRAM, I²S, TSI, QFN-48; ki_fp_filters: QFN*7x7mm*P0.5mm*; Footprint: Package_DFN_QFN:QFN-48-1EP_7x7mm_P0.5mm_EP5.15x5.15mm; Supplier: http://www.nxp.com/docs/en/data-sheet/KL16P64M48SF5.pdf
footprint QFN-48-1EP_7x7mm_P0.5mm_EP5.15x5.15mm
pins: 1 VDD (power), 2 VSS (power), 3 PTE16 (io), 4 PTE17 (io), 5 PTE18 (io), 6 PTE19 (io), 7 PTE20 (io), 8 PTE21 (io), 9 VDDA (power), 10 VREFH (power), 11 VREFL (power), 12 VSSA (power), 13 PTE29 (io), 14 PTE30 (io), 15 PTE24 (io), 16 PTE25 (io), 17 PTA0 (io), 18 PTA1 (io), 19 PTA2 (io), 20 PTA3 (io), 21 PTA4 (io), 22 VDD hidden, 23 VSS hidden, 24 PTA18 (io), 25 PTA19 (io), 26 PTA20 (io), 27 PTB0/LLWU_P5 (io), 28 PTB1 (io), 29 PTB2 (io), 30 PTB3 (io), 31 PTB16 (io), 32 PTB17 (io), 33 PTC0 (io), 34 PTC1/LLWU_P6/RTC_CLKIN (io), 35 PTC2 (io), 36 PTC3/LLWU_P7 (io), 37 PTC4/LLWU_P8 (io), 38 PTC5/LLWU_P9 (io), 39 PTC6/LLWU_P10 (io), 40 PTC7 (io), 41 PTD0 (io), 42 PTD1 (io), 43 PTD2 (io), 44 PTD3 (io), 45 PTD4/LLWU_P14 (io), 46 PTD5 (io), 47 PTD6/LLWU_P15 (io), 48 PTD7 (io)

## MKL16Z128VLH4
designator *  value MKL16Z128VLH4
ki_keywords: Kinetis KL16 ARM Cortex M0+; ki_description: Kinetis KL16 series, 48-MHz/32-bit ARM Cortex-M0+, 128 kB flash, 16 kB SRAM, I²S, TSI, LQFP-64; ki_fp_filters: LQFP*10x10mm*P0.5mm*; Footprint: Package_QFP:LQFP-64_10x10mm_P0.5mm; Supplier: http://www.nxp.com/docs/en/data-sheet/KL16P64M48SF5.pdf
footprint LQFP-64_10x10mm_P0.5mm
pins: 1 PTE0 (io), 2 PTE1 (io), 3 VDD (power), 4 VSS (power), 5 PTE16 (io), 6 PTE17 (io), 7 PTE18 (io), 8 PTE19 (io), 9 PTE20 (io), 10 PTE21 (io), 11 PTE22 (io), 12 PTE23 (io), 13 VDDA (power), 14 VREFH (power), 15 VREFL (power), 16 VSSA (power), 17 PTE29 (io), 18 PTE30 (io), 19 PTE31 (io), 20 PTE24 (io), 21 PTE25 (io), 22 PTA0 (io), 23 PTA1 (io), 24 PTA2 (io), 25 PTA3 (io), 26 PTA4 (io), 27 PTA5 (io), 28 PTA12 (io), 29 PTA13 (io), 30 VDD hidden, 31 VSS hidden, 32 PTA18 (io), 33 PTA19 (io), 34 PTA20 (io), 35 PTB0/LLWU_P5 (io), 36 PTB1 (io), 37 PTB2 (io), 38 PTB3 (io), 39 PTB16 (io), 40 PTB17 (io), 41 PTB18 (io), 42 PTB19 (io), 43 PTC0 (io), 44 PTC1/LLWU_P6/RTC_CLKIN (io), 45 PTC2 (io), 46 PTC3/LLWU_P7 (io), 47 VSS hidden, 48 VDD hidden, 49 PTC4/LLWU_P8 (io), 50 PTC5/LLWU_P9 (io), 51 PTC6/LLWU_P10 (io), 52 PTC7 (io), 53 PTC8 (io), 54 PTC9 (io), 55 PTC10 (io), 56 PTC11 (io), 57 PTD0 (io), 58 PTD1 (io), 59 PTD2 (io), 60 PTD3 (io), 61 PTD4/LLWU_P14 (io), 62 PTD5 (io), 63 PTD6/LLWU_P15 (io), 64 PTD7 (io)

## MKL16Z256VLH4
designator *  value MKL16Z256VLH4
ki_keywords: Kinetis KL16 ARM Cortex M0+; ki_description: Kinetis KL16 series, 48-MHz/32-bit ARM Cortex-M0+, 256 kB flash, 32 kB SRAM, I²S, TSI, LQFP-64; ki_fp_filters: LQFP*10x10mm*P0.5mm*; Footprint: Package_QFP:LQFP-64_10x10mm_P0.5mm; Supplier: http://www.nxp.com/docs/en/data-sheet/KL16P64M48SF4.pdf
footprint LQFP-64_10x10mm_P0.5mm
pins: 1 PTE0 (io), 2 PTE1 (io), 3 VDD (power), 4 VSS (power), 5 PTE16 (io), 6 PTE17 (io), 7 PTE18 (io), 8 PTE19 (io), 9 PTE20 (io), 10 PTE21 (io), 11 PTE22 (io), 12 PTE23 (io), 13 VDDA (power), 14 VREFH (power), 15 VREFL (power), 16 VSSA (power), 17 PTE29 (io), 18 PTE30 (io), 19 PTE31 (io), 20 PTE24 (io), 21 PTE25 (io), 22 PTA0 (io), 23 PTA1 (io), 24 PTA2 (io), 25 PTA3 (io), 26 PTA4 (io), 27 PTA5 (io), 28 PTA12 (io), 29 PTA13 (io), 30 VDD hidden, 31 VSS hidden, 32 PTA18 (io), 33 PTA19 (io), 34 PTA20 (io), 35 PTB0/LLWU_P5 (io), 36 PTB1 (io), 37 PTB2 (io), 38 PTB3 (io), 39 PTB16 (io), 40 PTB17 (io), 41 PTB18 (io), 42 PTB19 (io), 43 PTC0 (io), 44 PTC1/LLWU_P6/RTC_CLKIN (io), 45 PTC2 (io), 46 PTC3/LLWU_P7 (io), 47 VSS hidden, 48 VDD hidden, 49 PTC4/LLWU_P8 (io), 50 PTC5/LLWU_P9 (io), 51 PTC6/LLWU_P10 (io), 52 PTC7 (io), 53 PTC8 (io), 54 PTC9 (io), 55 PTC10 (io), 56 PTC11 (io), 57 PTD0 (io), 58 PTD1 (io), 59 PTD2 (io), 60 PTD3 (io), 61 PTD4/LLWU_P14 (io), 62 PTD5 (io), 63 PTD6/LLWU_P15 (io), 64 PTD7 (io)

## MKL16Z256VMP4
designator *  value MKL16Z256VMP4
ki_keywords: Kinetis KL16 ARM Cortex M0+; ki_description: Kinetis KL16 series, 48-MHz/32-bit ARM Cortex-M0+, 256 kB flash, 32 kB SRAM, I²S, TSI, MAPBGA-64; ki_fp_filters: XFBGA*5.0x5.0mm*P0.5mm*; Footprint: Package_BGA:XFBGA-64_5.0x5.0mm_Layout8x8_P0.5mm; Supplier: http://www.nxp.com/docs/en/data-sheet/KL16P64M48SF4.pdf
footprint XFBGA-64_5.0x5.0mm_Layout8x8_P0.5mm
pins: A1 PTE0 (io), A2 PTD7 (io), A3 PTD4/LLWU_P14 (io), A4 PTD1 (io), A5 PTC11 (io), A6 PTC8 (io), A7 PTC6/LLWU_P10 (io), A8 PTC5/LLWU_P9 (io), B1 PTE1 (io), B2 PTD6/LLWU_P15 (io), B3 PTD3 (io), B4 PTC10 (io), B5 PTC9 (io), B6 PTC7 (io), B7 PTC2 (io), B8 PTC4/LLWU_P8 (io), C1 PTD5 (io), C2 PTD2 (io), C3 PTD0 (io), C4 VSS (power), C5 NC (in) hidden, C6 PTC1/LLWU_P6/RTC_CLKIN (io), C7 PTB19 (io), C8 PTC3/LLWU_P7 (io), D1 PTE17 (io), D2 PTE19 (io), D3 PTA0 (io), D4 PTA1 (io), D5 PTA3 (io), D6 PTB18 (io), D7 PTB17 (io), D8 PTC0 (io), E1 PTE16 (io), E2 PTE18 (io), E3 VSS hidden, E4 VDD (power), E5 PTA2 (io), E6 PTB16 (io), E7 PTB2 (io), E8 PTB3 (io), F1 PTE21 (io), F2 PTE23 (io), F3 VSSA (power), F4 VDDA (power), F5 PTA5 (io), F6 PTB1 (io), F7 PTB0/LLWU_P5 (io), F8 PTA20 (io), G1 PTE20 (io), G2 PTE22 (io), G3 VREFL (power), G4 VREFH (power), G5 PTA4 (io), G6 PTA13 (io), G7 VDD hidden, G8 PTA19 (io), H1 PTE29 (io), H2 PTE30 (io), H3 PTE31 (io), H4 PTE24 (io), H5 PTE25 (io), H6 PTA12 (io), H7 VSS hidden, H8 PTA18 (io)

## MKL17Z32VDA4
designator *  value MKL17Z32VDA4
ki_keywords: Kinetis KL17 ARM Cortex M0+; ki_description: Kinetis KL17 series, 48-MHz/32-bit ARM Cortex-M0+, 32 kB flash, 8 kB SRAM, FlexIO, XFBGA-36; ki_fp_filters: XFBGA*3.5x3.5mm*P0.5mm*; Footprint: Package_BGA:XFBGA-36_3.5x3.5mm_Layout6x6_P0.5mm; Supplier: http://www.nxp.com/docs/en/data-sheet/KL17P64M48SF2.pdf
footprint XFBGA-36_3.5x3.5mm_Layout6x6_P0.5mm
pins: A1 PTE0 (io), A2 PTD7 (io), A3 PTD4/LLWU_P14 (io), A4 PTC7 (io), A5 PTC5/LLWU_P9 (io), A6 PTC4/LLWU_P8 (io), B1 PTE1 (io), B2 PTD6/LLWU_P15 (io), B3 PTD5 (io), B4 PTC6/LLWU_P10 (io), B5 PTC3/LLWU_P7 (io), B6 PTC2 (io), C1 PTE17 (io), C2 PTE16 (io), C3 VDD (power), C4 VSS (power), C5 PTC1/LLWU_P6/RTC_CLKIN (io), C6 PTB1 (io), D1 PTE18 (io), D2 PTE19 (io), D3 VDDA/VREFH (power), D4 VSSA/VREFL (power), D5 PTA20 (io), D6 PTB0/LLWU_P5 (io), E1 PTE22 (io), E2 PTE21 (io), E3 PTE20 (io), E4 PTA2 (io), E5 PTA3 (io), E6 PTA19 (io), F1 PTE23 (io), F2 PTE30/VREF0 (io), F3 PTA0 (io), F4 PTA1 (io), F5 PTA4 (io), F6 PTA18 (io)

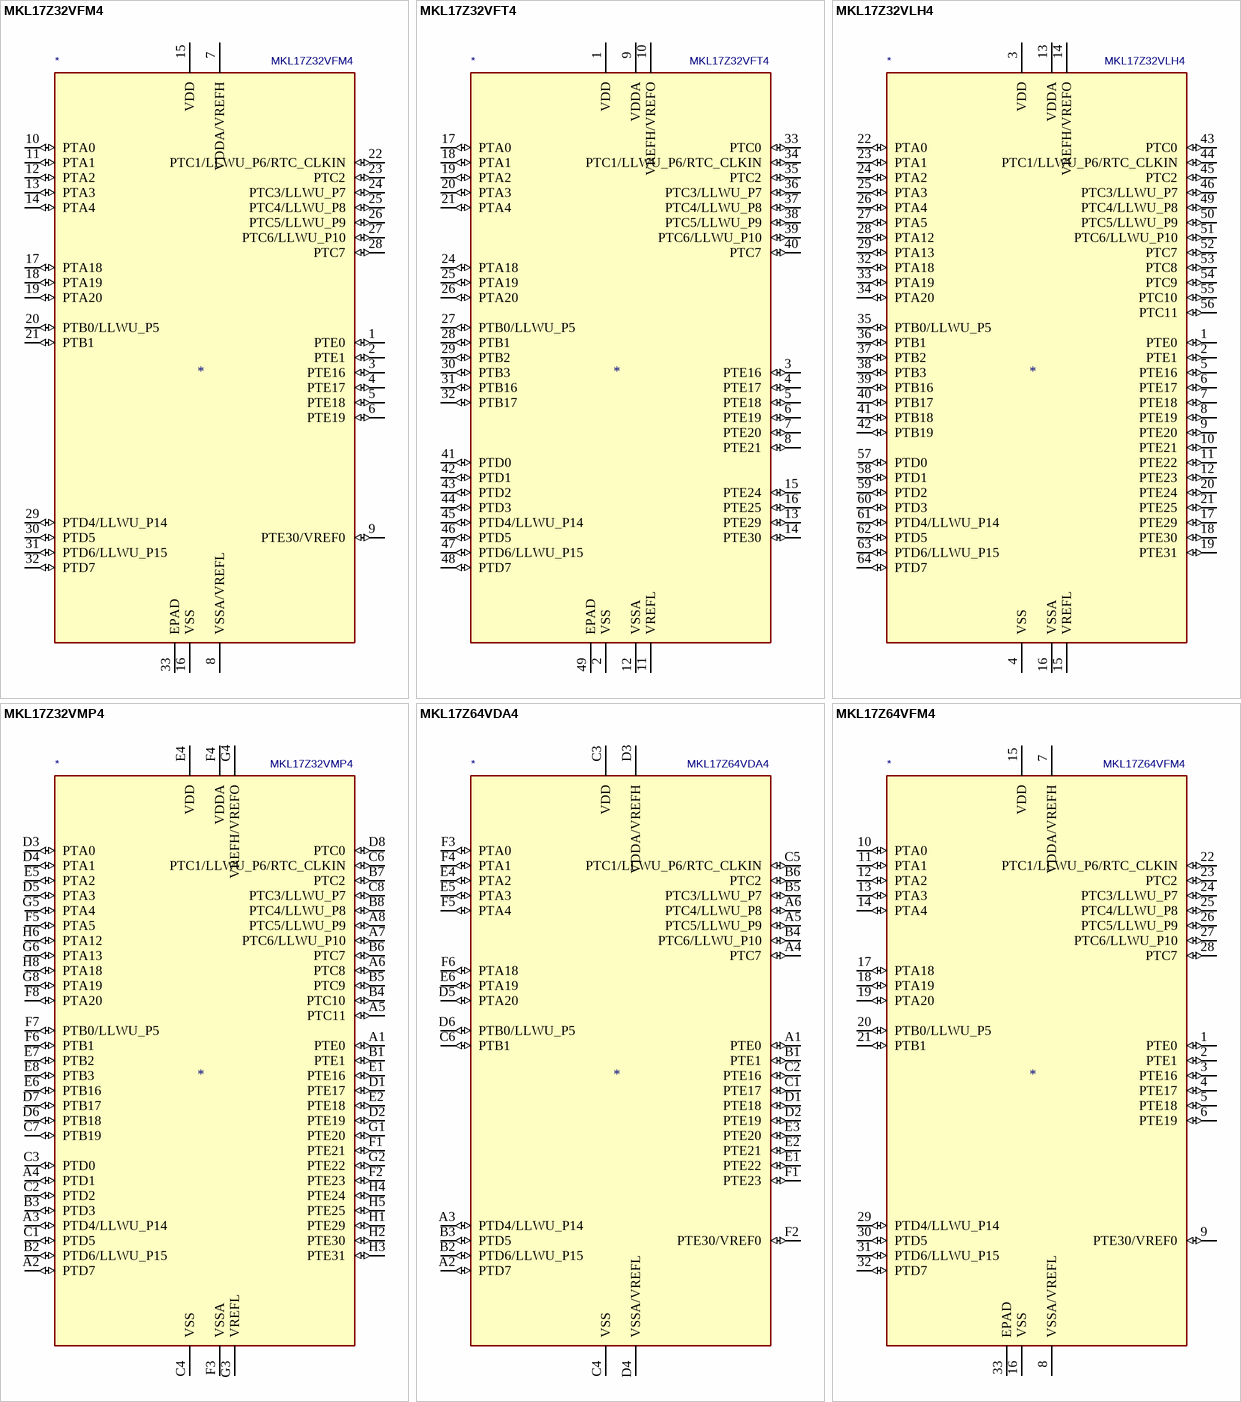
[diagram p11: symbols MKL17Z32VFM4 to MKL17Z64VFM4]

## MKL17Z32VFM4
designator *  value MKL17Z32VFM4
ki_keywords: Kinetis KL17 ARM Cortex M0+; ki_description: Kinetis KL17 series, 48-MHz/32-bit ARM Cortex-M0+, 32 kB flash, 8 kB SRAM, FlexIO, QFN-32; ki_fp_filters: QFN*5x5mm*P0.5mm*; Footprint: Package_DFN_QFN:QFN-32-1EP_5x5mm_P0.5mm_EP3.45x3.45mm; Supplier: http://www.nxp.com/docs/en/data-sheet/KL17P64M48SF2.pdf
footprint QFN-32-1EP_5x5mm_P0.5mm_EP3.45x3.45mm
pins: 1 PTE0 (io), 2 PTE1 (io), 3 PTE16 (io), 4 PTE17 (io), 5 PTE18 (io), 6 PTE19 (io), 7 VDDA/VREFH (power), 8 VSSA/VREFL (power), 9 PTE30/VREF0 (io), 10 PTA0 (io), 11 PTA1 (io), 12 PTA2 (io), 13 PTA3 (io), 14 PTA4 (io), 15 VDD (power), 16 VSS (power), 17 PTA18 (io), 18 PTA19 (io), 19 PTA20 (io), 20 PTB0/LLWU_P5 (io), 21 PTB1 (io), 22 PTC1/LLWU_P6/RTC_CLKIN (io), 23 PTC2 (io), 24 PTC3/LLWU_P7 (io), 25 PTC4/LLWU_P8 (io), 26 PTC5/LLWU_P9 (io), 27 PTC6/LLWU_P10 (io), 28 PTC7 (io), 29 PTD4/LLWU_P14 (io), 30 PTD5 (io), 31 PTD6/LLWU_P15 (io), 32 PTD7 (io), 33 EPAD (power)

## MKL17Z32VFT4
designator *  value MKL17Z32VFT4
ki_keywords: Kinetis KL17 ARM Cortex M0+; ki_description: Kinetis KL17 series, 48-MHz/32-bit ARM Cortex-M0+, 32 kB flash, 8 kB SRAM, FlexIO, QFN-48; ki_fp_filters: QFN*7x7mm*P0.5mm*; Footprint: Package_DFN_QFN:QFN-48-1EP_7x7mm_P0.5mm_EP5.15x5.15mm; Supplier: http://www.nxp.com/docs/en/data-sheet/KL17P64M48SF6.pdf
footprint QFN-48-1EP_7x7mm_P0.5mm_EP5.15x5.15mm
pins: 1 VDD (power), 2 VSS (power), 3 PTE16 (io), 4 PTE17 (io), 5 PTE18 (io), 6 PTE19 (io), 7 PTE20 (io), 8 PTE21 (io), 9 VDDA (power), 10 VREFH/VREFO (power), 11 VREFL (power), 12 VSSA (power), 13 PTE29 (io), 14 PTE30 (io), 15 PTE24 (io), 16 PTE25 (io), 17 PTA0 (io), 18 PTA1 (io), 19 PTA2 (io), 20 PTA3 (io), 21 PTA4 (io), 22 VDD hidden, 23 VSS hidden, 24 PTA18 (io), 25 PTA19 (io), 26 PTA20 (io), 27 PTB0/LLWU_P5 (io), 28 PTB1 (io), 29 PTB2 (io), 30 PTB3 (io), 31 PTB16 (io), 32 PTB17 (io), 33 PTC0 (io), 34 PTC1/LLWU_P6/RTC_CLKIN (io), 35 PTC2 (io), 36 PTC3/LLWU_P7 (io), 37 PTC4/LLWU_P8 (io), 38 PTC5/LLWU_P9 (io), 39 PTC6/LLWU_P10 (io), 40 PTC7 (io), 41 PTD0 (io), 42 PTD1 (io), 43 PTD2 (io), 44 PTD3 (io), 45 PTD4/LLWU_P14 (io), 46 PTD5 (io), 47 PTD6/LLWU_P15 (io), 48 PTD7 (io), 49 EPAD (power)

## MKL17Z32VLH4
designator *  value MKL17Z32VLH4
ki_keywords: Kinetis KL17 ARM Cortex M0+; ki_description: Kinetis KL17 series, 48-MHz/32-bit ARM Cortex-M0+, 32 kB flash, 8 kB SRAM, FlexIO, LQFP-64; ki_fp_filters: LQFP*10x10mm*P0.5mm*; Footprint: Package_QFP:LQFP-64_10x10mm_P0.5mm; Supplier: http://www.nxp.com/docs/en/data-sheet/KL17P64M48SF2.pdf
footprint LQFP-64_10x10mm_P0.5mm
pins: 1 PTE0 (io), 2 PTE1 (io), 3 VDD (power), 4 VSS (power), 5 PTE16 (io), 6 PTE17 (io), 7 PTE18 (io), 8 PTE19 (io), 9 PTE20 (io), 10 PTE21 (io), 11 PTE22 (io), 12 PTE23 (io), 13 VDDA (power), 14 VREFH/VREFO (power), 15 VREFL (power), 16 VSSA (power), 17 PTE29 (io), 18 PTE30 (io), 19 PTE31 (io), 20 PTE24 (io), 21 PTE25 (io), 22 PTA0 (io), 23 PTA1 (io), 24 PTA2 (io), 25 PTA3 (io), 26 PTA4 (io), 27 PTA5 (io), 28 PTA12 (io), 29 PTA13 (io), 30 VDD hidden, 31 VSS hidden, 32 PTA18 (io), 33 PTA19 (io), 34 PTA20 (io), 35 PTB0/LLWU_P5 (io), 36 PTB1 (io), 37 PTB2 (io), 38 PTB3 (io), 39 PTB16 (io), 40 PTB17 (io), 41 PTB18 (io), 42 PTB19 (io), 43 PTC0 (io), 44 PTC1/LLWU_P6/RTC_CLKIN (io), 45 PTC2 (io), 46 PTC3/LLWU_P7 (io), 47 VSS hidden, 48 VDD hidden, 49 PTC4/LLWU_P8 (io), 50 PTC5/LLWU_P9 (io), 51 PTC6/LLWU_P10 (io), 52 PTC7 (io), 53 PTC8 (io), 54 PTC9 (io), 55 PTC10 (io), 56 PTC11 (io), 57 PTD0 (io), 58 PTD1 (io), 59 PTD2 (io), 60 PTD3 (io), 61 PTD4/LLWU_P14 (io), 62 PTD5 (io), 63 PTD6/LLWU_P15 (io), 64 PTD7 (io)

## MKL17Z32VMP4
designator *  value MKL17Z32VMP4
ki_keywords: Kinetis KL17 ARM Cortex M0+; ki_description: Kinetis KL17 series, 48-MHz/32-bit ARM Cortex-M0+, 32 kB flash, 8 kB SRAM, FlexIO, MAPBGA-64; ki_fp_filters: XFBGA*5.0x5.0mm*P0.5mm*; Footprint: Package_BGA:XFBGA-64_5.0x5.0mm_Layout8x8_P0.5mm; Supplier: http://www.nxp.com/docs/en/data-sheet/KL17P64M48SF2.pdf
footprint XFBGA-64_5.0x5.0mm_Layout8x8_P0.5mm
pins: A1 PTE0 (io), A2 PTD7 (io), A3 PTD4/LLWU_P14 (io), A4 PTD1 (io), A5 PTC11 (io), A6 PTC8 (io), A7 PTC6/LLWU_P10 (io), A8 PTC5/LLWU_P9 (io), B1 PTE1 (io), B2 PTD6/LLWU_P15 (io), B3 PTD3 (io), B4 PTC10 (io), B5 PTC9 (io), B6 PTC7 (io), B7 PTC2 (io), B8 PTC4/LLWU_P8 (io), C1 PTD5 (io), C2 PTD2 (io), C3 PTD0 (io), C4 VSS (power), C5 NC (in) hidden, C6 PTC1/LLWU_P6/RTC_CLKIN (io), C7 PTB19 (io), C8 PTC3/LLWU_P7 (io), D1 PTE17 (io), D2 PTE19 (io), D3 PTA0 (io), D4 PTA1 (io), D5 PTA3 (io), D6 PTB18 (io), D7 PTB17 (io), D8 PTC0 (io), E1 PTE16 (io), E2 PTE18 (io), E3 VSS hidden, E4 VDD (power), E5 PTA2 (io), E6 PTB16 (io), E7 PTB2 (io), E8 PTB3 (io), F1 PTE21 (io), F2 PTE23 (io), F3 VSSA (power), F4 VDDA (power), F5 PTA5 (io), F6 PTB1 (io), F7 PTB0/LLWU_P5 (io), F8 PTA20 (io), G1 PTE20 (io), G2 PTE22 (io), G3 VREFL (power), G4 VREFH/VREFO (power), G5 PTA4 (io), G6 PTA13 (io), G7 VDD hidden, G8 PTA19 (io), H1 PTE29 (io), H2 PTE30 (io), H3 PTE31 (io), H4 PTE24 (io), H5 PTE25 (io), H6 PTA12 (io), H7 VSS hidden, H8 PTA18 (io)

## MKL17Z64VDA4
designator *  value MKL17Z64VDA4
ki_keywords: Kinetis KL17 ARM Cortex M0+; ki_description: Kinetis KL17 series, 48-MHz/32-bit ARM Cortex-M0+, 64 kB flash, 16 kB SRAM, FlexIO, XFBGA-36; ki_fp_filters: XFBGA*3.5x3.5mm*P0.5mm*; Footprint: Package_BGA:XFBGA-36_3.5x3.5mm_Layout6x6_P0.5mm; Supplier: http://www.nxp.com/docs/en/data-sheet/KL17P64M48SF2.pdf
footprint XFBGA-36_3.5x3.5mm_Layout6x6_P0.5mm
pins: A1 PTE0 (io), A2 PTD7 (io), A3 PTD4/LLWU_P14 (io), A4 PTC7 (io), A5 PTC5/LLWU_P9 (io), A6 PTC4/LLWU_P8 (io), B1 PTE1 (io), B2 PTD6/LLWU_P15 (io), B3 PTD5 (io), B4 PTC6/LLWU_P10 (io), B5 PTC3/LLWU_P7 (io), B6 PTC2 (io), C1 PTE17 (io), C2 PTE16 (io), C3 VDD (power), C4 VSS (power), C5 PTC1/LLWU_P6/RTC_CLKIN (io), C6 PTB1 (io), D1 PTE18 (io), D2 PTE19 (io), D3 VDDA/VREFH (power), D4 VSSA/VREFL (power), D5 PTA20 (io), D6 PTB0/LLWU_P5 (io), E1 PTE22 (io), E2 PTE21 (io), E3 PTE20 (io), E4 PTA2 (io), E5 PTA3 (io), E6 PTA19 (io), F1 PTE23 (io), F2 PTE30/VREF0 (io), F3 PTA0 (io), F4 PTA1 (io), F5 PTA4 (io), F6 PTA18 (io)

## MKL17Z64VFM4
designator *  value MKL17Z64VFM4
ki_keywords: Kinetis KL17 ARM Cortex M0+; ki_description: Kinetis KL17 series, 48-MHz/32-bit ARM Cortex-M0+, 64 kB flash, 16 kB SRAM, FlexIO, QFN-32; ki_fp_filters: QFN*5x5mm*P0.5mm*; Footprint: Package_DFN_QFN:QFN-32-1EP_5x5mm_P0.5mm_EP3.45x3.45mm; Supplier: http://www.nxp.com/docs/en/data-sheet/KL17P64M48SF2.pdf
footprint QFN-32-1EP_5x5mm_P0.5mm_EP3.45x3.45mm
pins: 1 PTE0 (io), 2 PTE1 (io), 3 PTE16 (io), 4 PTE17 (io), 5 PTE18 (io), 6 PTE19 (io), 7 VDDA/VREFH (power), 8 VSSA/VREFL (power), 9 PTE30/VREF0 (io), 10 PTA0 (io), 11 PTA1 (io), 12 PTA2 (io), 13 PTA3 (io), 14 PTA4 (io), 15 VDD (power), 16 VSS (power), 17 PTA18 (io), 18 PTA19 (io), 19 PTA20 (io), 20 PTB0/LLWU_P5 (io), 21 PTB1 (io), 22 PTC1/LLWU_P6/RTC_CLKIN (io), 23 PTC2 (io), 24 PTC3/LLWU_P7 (io), 25 PTC4/LLWU_P8 (io), 26 PTC5/LLWU_P9 (io), 27 PTC6/LLWU_P10 (io), 28 PTC7 (io), 29 PTD4/LLWU_P14 (io), 30 PTD5 (io), 31 PTD6/LLWU_P15 (io), 32 PTD7 (io), 33 EPAD (power)

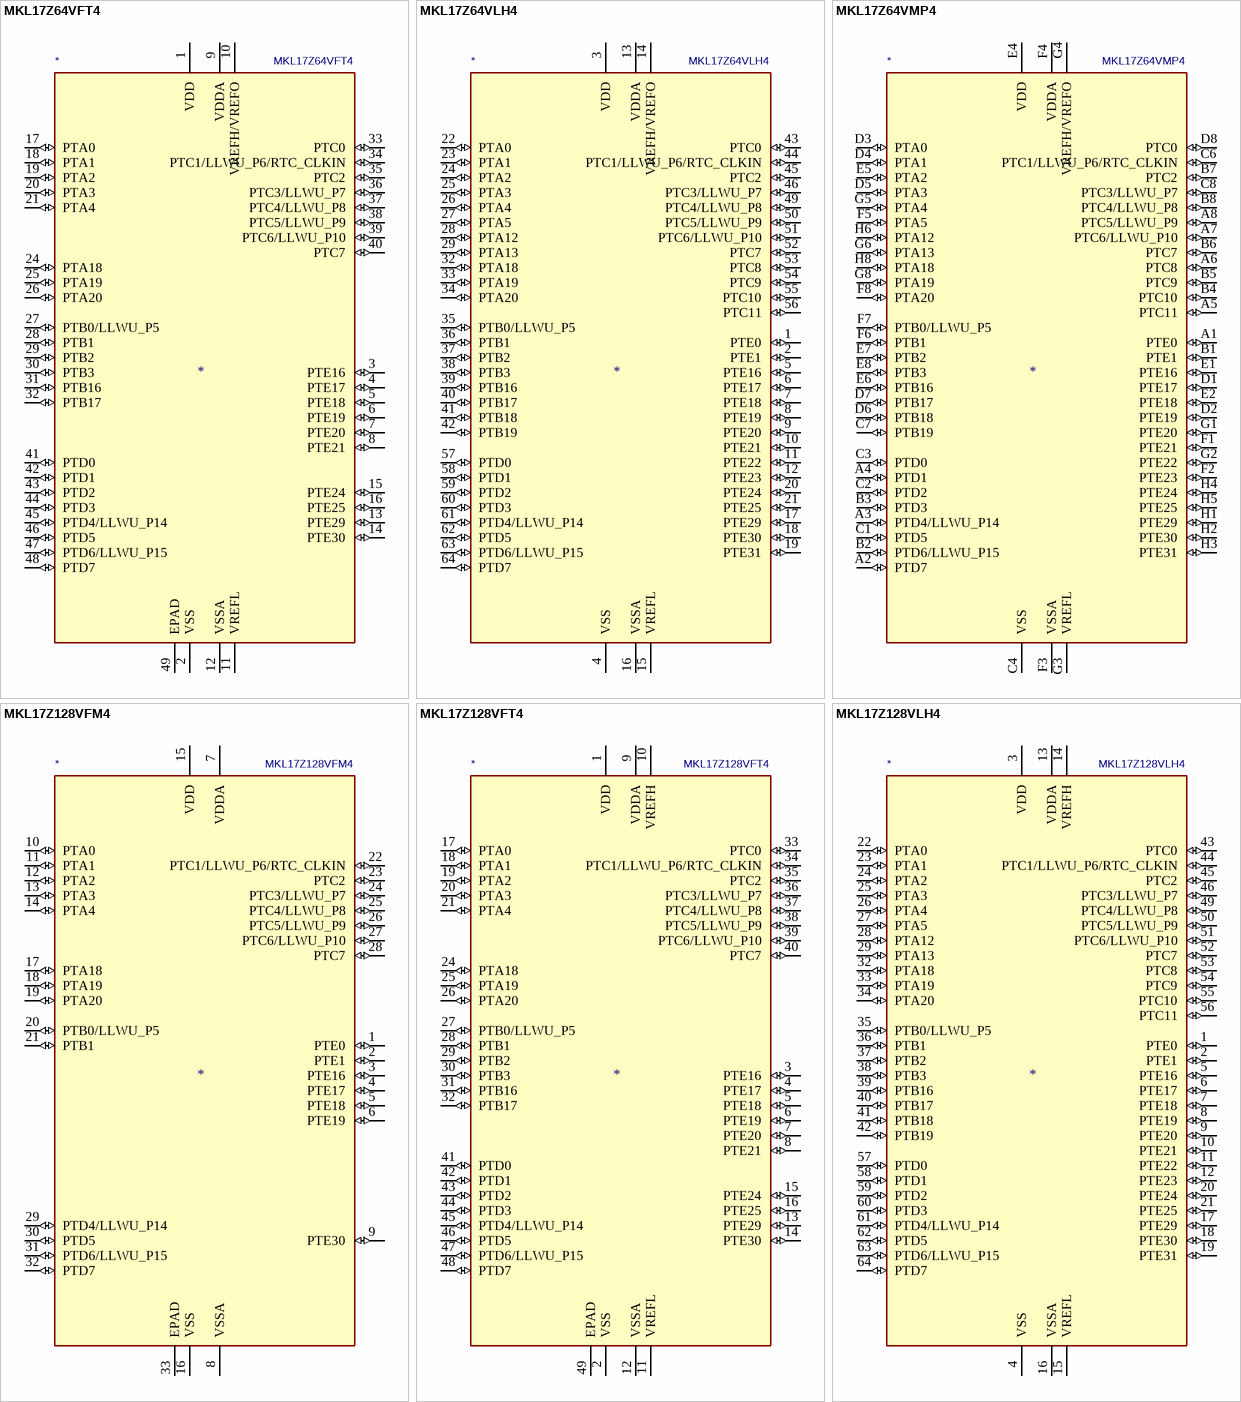
[diagram p12: symbols MKL17Z64VFT4 to MKL17Z128VLH4]

## MKL17Z64VFT4
designator *  value MKL17Z64VFT4
ki_keywords: Kinetis KL17 ARM Cortex M0+; ki_description: Kinetis KL17 series, 48-MHz/32-bit ARM Cortex-M0+, 64 kB flash, 16 kB SRAM, FlexIO, QFN-48; ki_fp_filters: QFN*7x7mm*P0.5mm*; Footprint: Package_DFN_QFN:QFN-48-1EP_7x7mm_P0.5mm_EP5.15x5.15mm; Supplier: http://www.nxp.com/docs/en/data-sheet/KL17P64M48SF6.pdf
footprint QFN-48-1EP_7x7mm_P0.5mm_EP5.15x5.15mm
pins: 1 VDD (power), 2 VSS (power), 3 PTE16 (io), 4 PTE17 (io), 5 PTE18 (io), 6 PTE19 (io), 7 PTE20 (io), 8 PTE21 (io), 9 VDDA (power), 10 VREFH/VREFO (power), 11 VREFL (power), 12 VSSA (power), 13 PTE29 (io), 14 PTE30 (io), 15 PTE24 (io), 16 PTE25 (io), 17 PTA0 (io), 18 PTA1 (io), 19 PTA2 (io), 20 PTA3 (io), 21 PTA4 (io), 22 VDD hidden, 23 VSS hidden, 24 PTA18 (io), 25 PTA19 (io), 26 PTA20 (io), 27 PTB0/LLWU_P5 (io), 28 PTB1 (io), 29 PTB2 (io), 30 PTB3 (io), 31 PTB16 (io), 32 PTB17 (io), 33 PTC0 (io), 34 PTC1/LLWU_P6/RTC_CLKIN (io), 35 PTC2 (io), 36 PTC3/LLWU_P7 (io), 37 PTC4/LLWU_P8 (io), 38 PTC5/LLWU_P9 (io), 39 PTC6/LLWU_P10 (io), 40 PTC7 (io), 41 PTD0 (io), 42 PTD1 (io), 43 PTD2 (io), 44 PTD3 (io), 45 PTD4/LLWU_P14 (io), 46 PTD5 (io), 47 PTD6/LLWU_P15 (io), 48 PTD7 (io), 49 EPAD (power)

## MKL17Z64VLH4
designator *  value MKL17Z64VLH4
ki_keywords: Kinetis KL17 ARM Cortex M0+; ki_description: Kinetis KL17 series, 48-MHz/32-bit ARM Cortex-M0+, 64 kB flash, 16 kB SRAM, FlexIO, LQFP-64; ki_fp_filters: LQFP*10x10mm*P0.5mm*; Footprint: Package_QFP:LQFP-64_10x10mm_P0.5mm; Supplier: http://www.nxp.com/docs/en/data-sheet/KL17P64M48SF2.pdf
footprint LQFP-64_10x10mm_P0.5mm
pins: 1 PTE0 (io), 2 PTE1 (io), 3 VDD (power), 4 VSS (power), 5 PTE16 (io), 6 PTE17 (io), 7 PTE18 (io), 8 PTE19 (io), 9 PTE20 (io), 10 PTE21 (io), 11 PTE22 (io), 12 PTE23 (io), 13 VDDA (power), 14 VREFH/VREFO (power), 15 VREFL (power), 16 VSSA (power), 17 PTE29 (io), 18 PTE30 (io), 19 PTE31 (io), 20 PTE24 (io), 21 PTE25 (io), 22 PTA0 (io), 23 PTA1 (io), 24 PTA2 (io), 25 PTA3 (io), 26 PTA4 (io), 27 PTA5 (io), 28 PTA12 (io), 29 PTA13 (io), 30 VDD hidden, 31 VSS hidden, 32 PTA18 (io), 33 PTA19 (io), 34 PTA20 (io), 35 PTB0/LLWU_P5 (io), 36 PTB1 (io), 37 PTB2 (io), 38 PTB3 (io), 39 PTB16 (io), 40 PTB17 (io), 41 PTB18 (io), 42 PTB19 (io), 43 PTC0 (io), 44 PTC1/LLWU_P6/RTC_CLKIN (io), 45 PTC2 (io), 46 PTC3/LLWU_P7 (io), 47 VSS hidden, 48 VDD hidden, 49 PTC4/LLWU_P8 (io), 50 PTC5/LLWU_P9 (io), 51 PTC6/LLWU_P10 (io), 52 PTC7 (io), 53 PTC8 (io), 54 PTC9 (io), 55 PTC10 (io), 56 PTC11 (io), 57 PTD0 (io), 58 PTD1 (io), 59 PTD2 (io), 60 PTD3 (io), 61 PTD4/LLWU_P14 (io), 62 PTD5 (io), 63 PTD6/LLWU_P15 (io), 64 PTD7 (io)

## MKL17Z64VMP4
designator *  value MKL17Z64VMP4
ki_keywords: Kinetis KL17 ARM Cortex M0+; ki_description: Kinetis KL17 series, 48-MHz/32-bit ARM Cortex-M0+, 64 kB flash, 16 kB SRAM, FlexIO, MAPBGA-64; ki_fp_filters: XFBGA*5.0x5.0mm*P0.5mm*; Footprint: Package_BGA:XFBGA-64_5.0x5.0mm_Layout8x8_P0.5mm; Supplier: http://www.nxp.com/docs/en/data-sheet/KL17P64M48SF2.pdf
footprint XFBGA-64_5.0x5.0mm_Layout8x8_P0.5mm
pins: A1 PTE0 (io), A2 PTD7 (io), A3 PTD4/LLWU_P14 (io), A4 PTD1 (io), A5 PTC11 (io), A6 PTC8 (io), A7 PTC6/LLWU_P10 (io), A8 PTC5/LLWU_P9 (io), B1 PTE1 (io), B2 PTD6/LLWU_P15 (io), B3 PTD3 (io), B4 PTC10 (io), B5 PTC9 (io), B6 PTC7 (io), B7 PTC2 (io), B8 PTC4/LLWU_P8 (io), C1 PTD5 (io), C2 PTD2 (io), C3 PTD0 (io), C4 VSS (power), C5 NC (in) hidden, C6 PTC1/LLWU_P6/RTC_CLKIN (io), C7 PTB19 (io), C8 PTC3/LLWU_P7 (io), D1 PTE17 (io), D2 PTE19 (io), D3 PTA0 (io), D4 PTA1 (io), D5 PTA3 (io), D6 PTB18 (io), D7 PTB17 (io), D8 PTC0 (io), E1 PTE16 (io), E2 PTE18 (io), E3 VSS hidden, E4 VDD (power), E5 PTA2 (io), E6 PTB16 (io), E7 PTB2 (io), E8 PTB3 (io), F1 PTE21 (io), F2 PTE23 (io), F3 VSSA (power), F4 VDDA (power), F5 PTA5 (io), F6 PTB1 (io), F7 PTB0/LLWU_P5 (io), F8 PTA20 (io), G1 PTE20 (io), G2 PTE22 (io), G3 VREFL (power), G4 VREFH/VREFO (power), G5 PTA4 (io), G6 PTA13 (io), G7 VDD hidden, G8 PTA19 (io), H1 PTE29 (io), H2 PTE30 (io), H3 PTE31 (io), H4 PTE24 (io), H5 PTE25 (io), H6 PTA12 (io), H7 VSS hidden, H8 PTA18 (io)

## MKL17Z128VFM4
designator *  value MKL17Z128VFM4
ki_keywords: Kinetis KL17 ARM Cortex M0+; ki_description: Kinetis KL17 series, 48-MHz/32-bit ARM Cortex-M0+, 128 kB flash, 32 kB SRAM, FlexIO, QFN-32; ki_fp_filters: QFN*5x5mm*P0.5mm*; Footprint: Package_DFN_QFN:QFN-32-1EP_5x5mm_P0.5mm_EP3.45x3.45mm; Supplier: http://www.nxp.com/docs/en/data-sheet/KL17P64M48SF6.pdf
footprint QFN-32-1EP_5x5mm_P0.5mm_EP3.45x3.45mm
pins: 1 PTE0 (io), 2 PTE1 (io), 3 PTE16 (io), 4 PTE17 (io), 5 PTE18 (io), 6 PTE19 (io), 7 VDDA (power), 8 VSSA (power), 9 PTE30 (io), 10 PTA0 (io), 11 PTA1 (io), 12 PTA2 (io), 13 PTA3 (io), 14 PTA4 (io), 15 VDD (power), 16 VSS (power), 17 PTA18 (io), 18 PTA19 (io), 19 PTA20 (io), 20 PTB0/LLWU_P5 (io), 21 PTB1 (io), 22 PTC1/LLWU_P6/RTC_CLKIN (io), 23 PTC2 (io), 24 PTC3/LLWU_P7 (io), 25 PTC4/LLWU_P8 (io), 26 PTC5/LLWU_P9 (io), 27 PTC6/LLWU_P10 (io), 28 PTC7 (io), 29 PTD4/LLWU_P14 (io), 30 PTD5 (io), 31 PTD6/LLWU_P15 (io), 32 PTD7 (io), 33 EPAD (power)

## MKL17Z128VFT4
designator *  value MKL17Z128VFT4
ki_keywords: Kinetis KL17 ARM Cortex M0+; ki_description: Kinetis KL17 series, 48-MHz/32-bit ARM Cortex-M0+, 128 kB flash, 32 kB SRAM, FlexIO, QFN-48; ki_fp_filters: QFN*7x7mm*P0.5mm*; Footprint: Package_DFN_QFN:QFN-48-1EP_7x7mm_P0.5mm_EP5.15x5.15mm; Supplier: http://www.nxp.com/docs/en/data-sheet/KL17P64M48SF6.pdf
footprint QFN-48-1EP_7x7mm_P0.5mm_EP5.15x5.15mm
pins: 1 VDD (power), 2 VSS (power), 3 PTE16 (io), 4 PTE17 (io), 5 PTE18 (io), 6 PTE19 (io), 7 PTE20 (io), 8 PTE21 (io), 9 VDDA (power), 10 VREFH (power), 11 VREFL (power), 12 VSSA (power), 13 PTE29 (io), 14 PTE30 (io), 15 PTE24 (io), 16 PTE25 (io), 17 PTA0 (io), 18 PTA1 (io), 19 PTA2 (io), 20 PTA3 (io), 21 PTA4 (io), 22 VDD hidden, 23 VSS hidden, 24 PTA18 (io), 25 PTA19 (io), 26 PTA20 (io), 27 PTB0/LLWU_P5 (io), 28 PTB1 (io), 29 PTB2 (io), 30 PTB3 (io), 31 PTB16 (io), 32 PTB17 (io), 33 PTC0 (io), 34 PTC1/LLWU_P6/RTC_CLKIN (io), 35 PTC2 (io), 36 PTC3/LLWU_P7 (io), 37 PTC4/LLWU_P8 (io), 38 PTC5/LLWU_P9 (io), 39 PTC6/LLWU_P10 (io), 40 PTC7 (io), 41 PTD0 (io), 42 PTD1 (io), 43 PTD2 (io), 44 PTD3 (io), 45 PTD4/LLWU_P14 (io), 46 PTD5 (io), 47 PTD6/LLWU_P15 (io), 48 PTD7 (io), 49 EPAD (power)

## MKL17Z128VLH4
designator *  value MKL17Z128VLH4
ki_keywords: Kinetis KL17 ARM Cortex M0+; ki_description: Kinetis KL17 series, 48-MHz/32-bit ARM Cortex-M0+, 128 kB flash, 32 kB SRAM, FlexIO, LQFP-64; ki_fp_filters: LQFP*10x10mm*P0.5mm*; Footprint: Package_QFP:LQFP-64_10x10mm_P0.5mm; Supplier: http://www.nxp.com/docs/en/data-sheet/KL17P64M48SF6.pdf
footprint LQFP-64_10x10mm_P0.5mm
pins: 1 PTE0 (io), 2 PTE1 (io), 3 VDD (power), 4 VSS (power), 5 PTE16 (io), 6 PTE17 (io), 7 PTE18 (io), 8 PTE19 (io), 9 PTE20 (io), 10 PTE21 (io), 11 PTE22 (io), 12 PTE23 (io), 13 VDDA (power), 14 VREFH (power), 15 VREFL (power), 16 VSSA (power), 17 PTE29 (io), 18 PTE30 (io), 19 PTE31 (io), 20 PTE24 (io), 21 PTE25 (io), 22 PTA0 (io), 23 PTA1 (io), 24 PTA2 (io), 25 PTA3 (io), 26 PTA4 (io), 27 PTA5 (io), 28 PTA12 (io), 29 PTA13 (io), 30 VDD hidden, 31 VSS hidden, 32 PTA18 (io), 33 PTA19 (io), 34 PTA20 (io), 35 PTB0/LLWU_P5 (io), 36 PTB1 (io), 37 PTB2 (io), 38 PTB3 (io), 39 PTB16 (io), 40 PTB17 (io), 41 PTB18 (io), 42 PTB19 (io), 43 PTC0 (io), 44 PTC1/LLWU_P6/RTC_CLKIN (io), 45 PTC2 (io), 46 PTC3/LLWU_P7 (io), 47 VSS hidden, 48 VDD hidden, 49 PTC4/LLWU_P8 (io), 50 PTC5/LLWU_P9 (io), 51 PTC6/LLWU_P10 (io), 52 PTC7 (io), 53 PTC8 (io), 54 PTC9 (io), 55 PTC10 (io), 56 PTC11 (io), 57 PTD0 (io), 58 PTD1 (io), 59 PTD2 (io), 60 PTD3 (io), 61 PTD4/LLWU_P14 (io), 62 PTD5 (io), 63 PTD6/LLWU_P15 (io), 64 PTD7 (io)

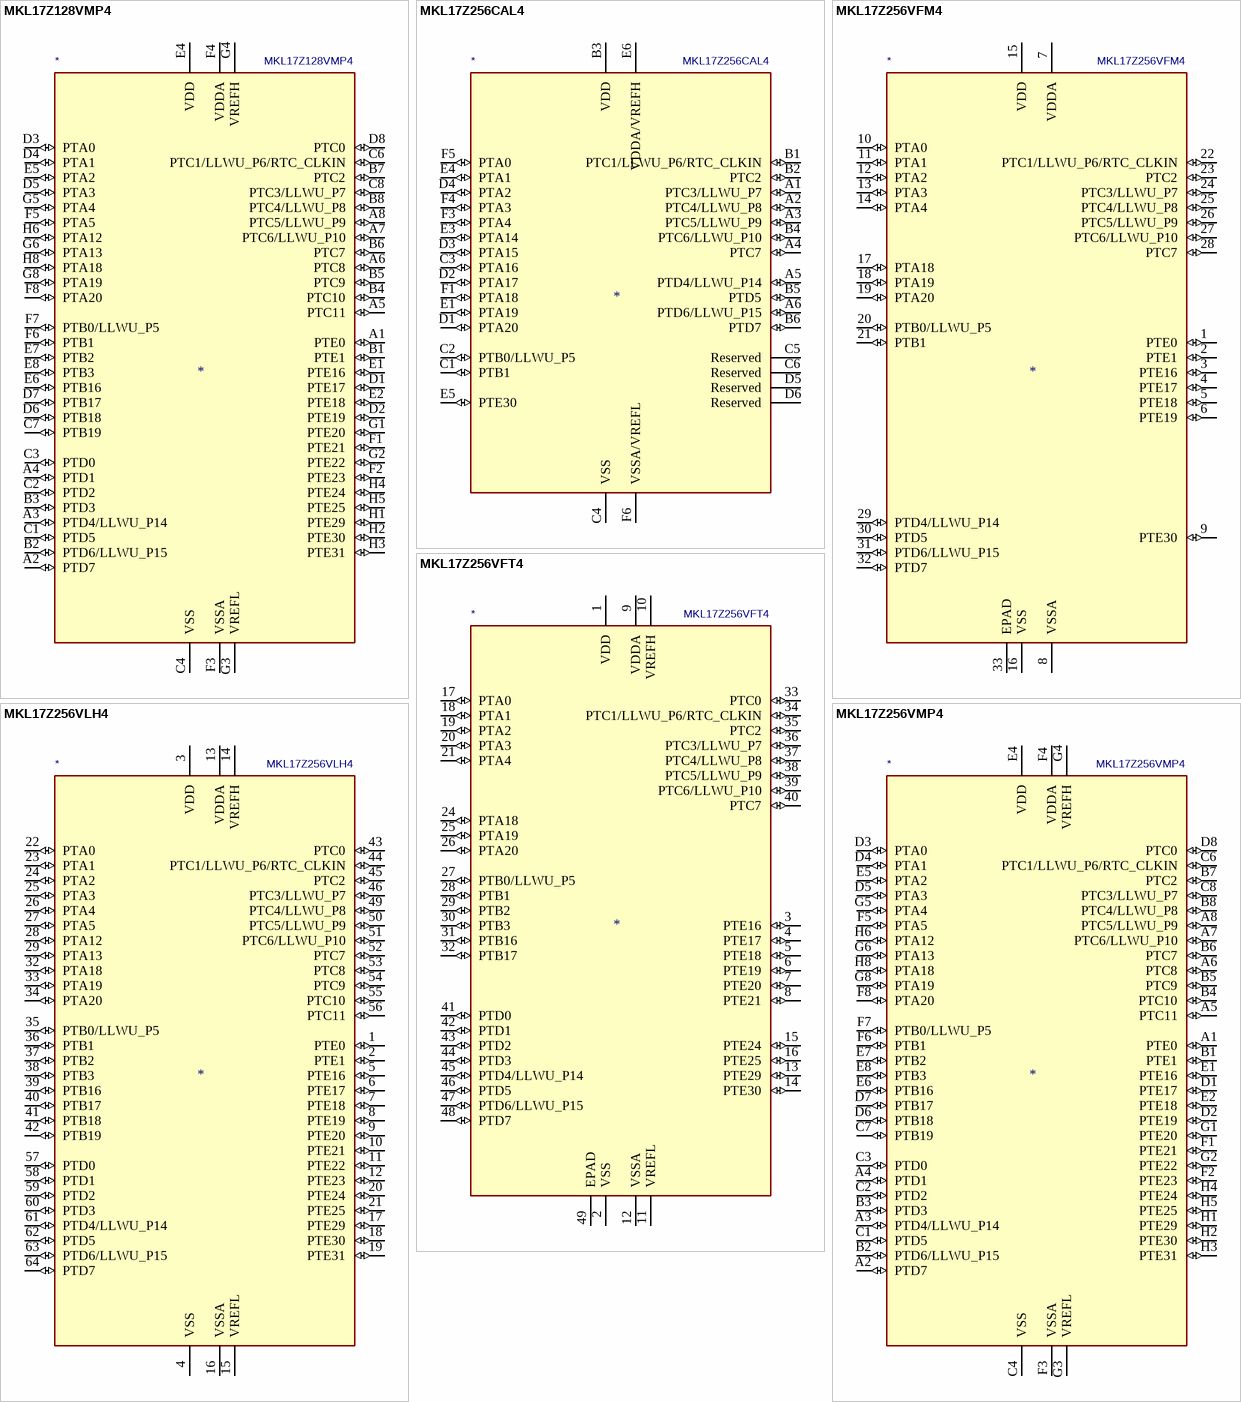
[diagram p13: symbols MKL17Z128VMP4 to MKL17Z256VMP4]

## MKL17Z128VMP4
designator *  value MKL17Z128VMP4
ki_keywords: Kinetis KL17 ARM Cortex M0+; ki_description: Kinetis KL17 series, 48-MHz/32-bit ARM Cortex-M0+, 128 kB flash, 32 kB SRAM, FlexIO, MAPBGA-64; ki_fp_filters: XFBGA*5.0x5.0mm*P0.5mm*; Footprint: Package_BGA:XFBGA-64_5.0x5.0mm_Layout8x8_P0.5mm; Supplier: http://www.nxp.com/docs/en/data-sheet/KL17P64M48SF6.pdf
footprint XFBGA-64_5.0x5.0mm_Layout8x8_P0.5mm
pins: A1 PTE0 (io), A2 PTD7 (io), A3 PTD4/LLWU_P14 (io), A4 PTD1 (io), A5 PTC11 (io), A6 PTC8 (io), A7 PTC6/LLWU_P10 (io), A8 PTC5/LLWU_P9 (io), B1 PTE1 (io), B2 PTD6/LLWU_P15 (io), B3 PTD3 (io), B4 PTC10 (io), B5 PTC9 (io), B6 PTC7 (io), B7 PTC2 (io), B8 PTC4/LLWU_P8 (io), C1 PTD5 (io), C2 PTD2 (io), C3 PTD0 (io), C4 VSS (power), C5 NC (in) hidden, C6 PTC1/LLWU_P6/RTC_CLKIN (io), C7 PTB19 (io), C8 PTC3/LLWU_P7 (io), D1 PTE17 (io), D2 PTE19 (io), D3 PTA0 (io), D4 PTA1 (io), D5 PTA3 (io), D6 PTB18 (io), D7 PTB17 (io), D8 PTC0 (io), E1 PTE16 (io), E2 PTE18 (io), E3 VSS hidden, E4 VDD (power), E5 PTA2 (io), E6 PTB16 (io), E7 PTB2 (io), E8 PTB3 (io), F1 PTE21 (io), F2 PTE23 (io), F3 VSSA (power), F4 VDDA (power), F5 PTA5 (io), F6 PTB1 (io), F7 PTB0/LLWU_P5 (io), F8 PTA20 (io), G1 PTE20 (io), G2 PTE22 (io), G3 VREFL (power), G4 VREFH (power), G5 PTA4 (io), G6 PTA13 (io), G7 VDD hidden, G8 PTA19 (io), H1 PTE29 (io), H2 PTE30 (io), H3 PTE31 (io), H4 PTE24 (io), H5 PTE25 (io), H6 PTA12 (io), H7 VSS hidden, H8 PTA18 (io)

## MKL17Z256CAL4
designator *  value MKL17Z256CAL4
ki_keywords: Kinetis KL17 ARM Cortex M0+; ki_description: Kinetis KL17 series, 48-MHz/32-bit ARM Cortex-M0+, 256 kB flash, 32 kB SRAM, FlexIO, WLCSP-36; ki_fp_filters: WLCSP*2.82x2.67mm*P0.4mm*; Footprint: Package_CSP:WLCSP-36_2.82x2.67mm_Layout6x6_P0.4mm; Supplier: http://www.nxp.com/docs/en/data-sheet/KL17P64M48SF6.pdf
footprint WLCSP-36_2.82x2.67mm_Layout6x6_P0.4mm
pins: A1 PTC3/LLWU_P7 (io), A2 PTC4/LLWU_P8 (io), A3 PTC5/LLWU_P9 (io), A4 PTC7 (io), A5 PTD4/LLWU_P14 (io), A6 PTD6/LLWU_P15 (io), B1 PTC1/LLWU_P6/RTC_CLKIN (io), B2 PTC2 (io), B3 VDD (power), B4 PTC6/LLWU_P10 (io), B5 PTD5 (io), B6 PTD7 (io), C1 PTB1 (io), C2 PTB0/LLWU_P5 (io), C3 PTA16 (io), C4 VSS (power), C5 Reserved, C6 Reserved, D1 PTA20 (io), D2 PTA17 (io), D3 PTA15 (io), D4 PTA2 (io), D5 Reserved, D6 Reserved, E1 PTA19 (io), E2 VDD hidden, E3 PTA14 (io), E4 PTA1 (io), E5 PTE30 (io), E6 VDDA/VREFH (power), F1 PTA18 (io), F2 VSS hidden, F3 PTA4 (io), F4 PTA3 (io), F5 PTA0 (io), F6 VSSA/VREFL (power)

## MKL17Z256VFM4
designator *  value MKL17Z256VFM4
ki_keywords: Kinetis KL17 ARM Cortex M0+; ki_description: Kinetis KL17 series, 48-MHz/32-bit ARM Cortex-M0+, 256 kB flash, 32 kB SRAM, FlexIO, QFN-32; ki_fp_filters: QFN*5x5mm*P0.5mm*; Footprint: Package_DFN_QFN:QFN-32-1EP_5x5mm_P0.5mm_EP3.45x3.45mm; Supplier: http://www.nxp.com/docs/en/data-sheet/KL17P64M48SF6.pdf
footprint QFN-32-1EP_5x5mm_P0.5mm_EP3.45x3.45mm
pins: 1 PTE0 (io), 2 PTE1 (io), 3 PTE16 (io), 4 PTE17 (io), 5 PTE18 (io), 6 PTE19 (io), 7 VDDA (power), 8 VSSA (power), 9 PTE30 (io), 10 PTA0 (io), 11 PTA1 (io), 12 PTA2 (io), 13 PTA3 (io), 14 PTA4 (io), 15 VDD (power), 16 VSS (power), 17 PTA18 (io), 18 PTA19 (io), 19 PTA20 (io), 20 PTB0/LLWU_P5 (io), 21 PTB1 (io), 22 PTC1/LLWU_P6/RTC_CLKIN (io), 23 PTC2 (io), 24 PTC3/LLWU_P7 (io), 25 PTC4/LLWU_P8 (io), 26 PTC5/LLWU_P9 (io), 27 PTC6/LLWU_P10 (io), 28 PTC7 (io), 29 PTD4/LLWU_P14 (io), 30 PTD5 (io), 31 PTD6/LLWU_P15 (io), 32 PTD7 (io), 33 EPAD (power)